# Altium integrated library Motorola Microcontroller 32-Bit.IntLib: 337 symbols (part 7 of 29)
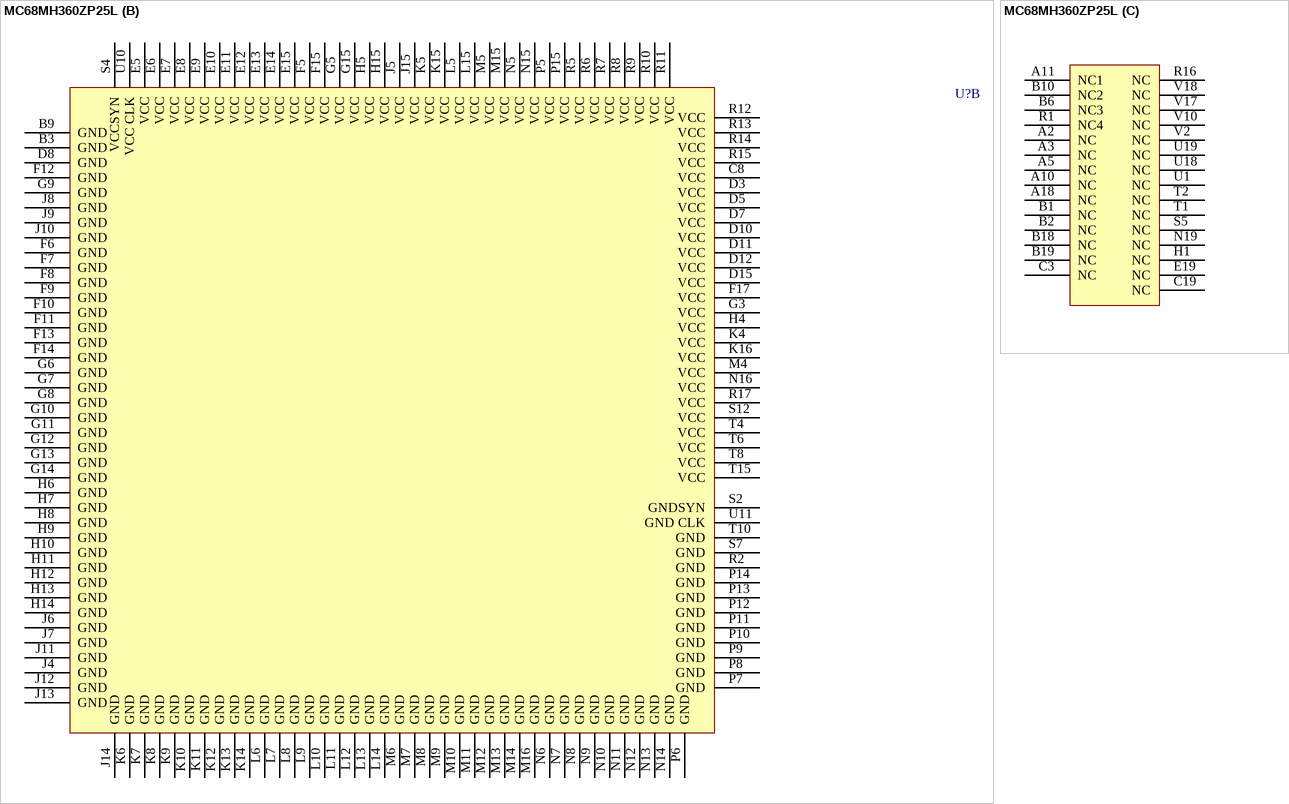
[diagram p246: symbol MC68MH360ZP25L]

## MC68MH360ZP25L
designator U?
Quad Integrated Communication Controller; Note: Footprint departs from the JEDEC JC-11 standard. The letter 's' is used to mark one of the rows.; Published: 21-Mar-2003; LatestRevisionDate: 13-Apr-2006; LatestRevisionNote: IPC-7351 Footprint Added.; DatasheetVersion: Jan-1995; PackageVersion: Sep-2002; PackageReference: 1103-01A; Publisher: Altium Limited; PackageDescription: 357-Ball Ball Grid Array 1.27 mm Pitch; ComponentLink1Description: Manufacturer Link; ComponentLink1URL: http://www.freescale.com/; ComponentLink2Description: Datasheet; ComponentLink2URL: http://www.freescale.com/files/32bit/doc/data_sheet/MC68360.pdf
footprint 1103-01 (BGA, 357-Leads, Body 25x25mm, Pitch 1.27mm)
3D model MC68MH360-1103-01 (357-Ball Ball Grid Array 1.27 mm Pitch)
part A pins: A4 ~{CAS}1/~{IACK}2 (out), A6 ~{DSACK}0/~{TB}I (io), A7 PRTY2/~{IOUT}0/~{RQOUT} (io), A8 PRTY0/~{IOUT}2 (io), A9 ~{IPIPE}1/~{RAS1DD}/~{BCLRI} (io), A12 ~{BR} (in), A13 ~{IRQ}4/~{IOUT}1 (io), A14 ~{RESETH} (io), A15 TDI (in), A16 ~{RMC}/CONFIG0/~{LOCK} (in), A17 ~{BERR}/~{TEA} (io), B4 ~{CAS}2/~{IACK}3 (out), B5 FREEZE/CONFIG2/~{MBARE} (out), B7 PRTY3/16~{BM} (io), B8 PRTY1/~{IOUT}1 (io), B11 ~{OE}/AMUX (out), B12 ~{BG} (io), B13 ~{IRQ}6/~{IOUT}2 (io), B14 ~{TRST} (in), B15 TDO (hiz), B16 ~{RESET}S (io), B17 ~{IRQ}1/~{IOUT}0/~{RQOUT} (io), C1 ~{CS}2/~{RAS}2 (io), C2 ~{CS}1/~{RAS}1 (io), C4 ~{CAS}3/~{IACK}6 (out), C5 ~{CAS}0/~{IACK}1 (out), C6 R/~{W} (out), C7 ~{DSACK}1/~{TA} (io), C9 ~{AS} (io), C10 ~{BCLRO}/CONFIG1/~{RAS2DD} (io), C11 ~{IFETCH}/BADD3/DSI (io), C12 ~{BGACK}/~{BB} (io), C13 ~{BKPT}/~{BKPTO}/DSCLK (io), C14 TMS (in), C15 ~{AVEC}/~{IACK}5/~{AVECO} (io), C16 ~{HALT} (io), C17 ~{IRQ}5 (in), C18 ~{IRQ}2 (in), D1 ~{CS}5/~{RAS}5 (io), D2 ~{CS}4/~{RAS}4 (io), D4 ~{CS}0/~{RAS}0 (io), D6 ~{DS}/TT1 (io), D9 ~{IPIPE}0/BADD2/DSO (out), D13 TCK (in), D14 ~{PERR} (out), D16 ~{IRQ}3 (in), D17 PC0/L1ST1/~{RTS}1 (io), D18 PC2/L1ST3/~{L1RQB}/~{RTS}3 (io), D19 PC3/L1ST4/~{L1RQA}/~{RTS}4 (io), E1 ~{TRIS}/~{TS} (in), E2 ~{CS}7/~{RAS}7/~{IACK}7 (io), E3 ~{CS}6/~{RAS}6 (io), E4 ~{CS}3/~{RAS}3 (io), E16 PC1/L1ST2/~{RTS}2 (io), E17 PC4/~{CTS}1 (io), E18 PC5/~{TGATE}1/~{CD}1 (io), F1 A3 (io), F2 A1 (io), F3 A0 (io), F4 ~{IRQ}7 (in), F16 PC6/~{CTS}2 (io), F18 PC7/~{TGATE}2/~{CD}2 (io), F19 PC8/~{SDACK}2/L1TSYNCB/~{CTS}3 (io), G1 A5 (io), G2 A4 (io), G4 A2 (io), G16 PC9/L1RSYNCB/~{CD}3 (io), G17 PC10/~{SDACK}1/L1TSYNCA/~{CTS}4 (io), G18 PC11/L1RSYNCA/~{CD}4 (io), G19 PB0/~{RRJCT}1/~{SPISEL} (io), H2 A7 (io), H3 A6 (io), H16 PB1/~{RSTRT}2/SPICLK (io), H17 PB2/~{RRJCT}2/SPIMOSI(SPITXD) (io), H18 PB3/BRGO4/SPIMISO(SPIRXD) (io), H19 PB4/~{DREQ}1/BRGO1 (io), J1 A8 (io), J2 A10 (io), J3 A9 (io), J16 PB6/~{DONE}1/SMTXD1 (io), J17 PB7/~{DONE}2/SMRXD1 (io), J18 PB5/~{DACK}1/BRGO2 (io), J19 PB8/~{DREQ}2/~{SMSYN}1 (io), K1 A11 (io), K2 A13 (io), K3 A12 (io), K17 PB10/L1CLKOB/SMTXD2 (io), K18 PB9/~{DACK}2/~{SMSYN}2 (io), K19 PB11/L1CLKOA/SMRXD2 (io), L1 A14 (io), L2 A17 (io), L3 A15 (io), L4 A16 (io), L16 PB14/L1ST3/~{L1RQB}/~{RTS}3 (io), L17 PB13/L1ST2/~{RTS}2 (io), L18 PB12/L1ST1/~{RTS}1 (io), L19 PB15/L1ST4/~{L1RQA}/~{RTS}4 (io), M1 A18 (io), M2 A19 (io), M3 A20 (io), M17 PA0/RXD1 (io), M18 PB17/STRBI/~{RSTRT}1 (io), M19 PB16/STRBO/BRGO3 (io), N1 A21 (io), N2 A22 (io), N3 A23 (io), N4 A25 (io), N17 PA2/RXD2 (io), N18 PA1/TXD1 (io), P1 A24 (io), P2 A26 (io), P3 A27 (io), P4 XTAL, P16 PA7/L1RXDA/TXD4 (io), P17 PA5/L1RXDB/TXD3 (io), P18 PA4/L1TXDB/RXD3 (io), P19 PA3/TXD2 (io), R3 MODCK1 (in), R4 EXTAL, R18 PA8/TIN1/L1RCLKA/BRGO1/CLK1 (io), R19 PA6/L1TXDA/RXD4 (io), S1 MODCK0 (in), S3 XFC, S6 FC2/TM2 (io), S8 D26 (io), S9 D22 (io), S10 CLKO1 (out), S11 D19 (io), S13 D11 (io), S14 D5 (io), S15 D0 (io), S16 PA15/L1TCLKB/~{TOUT}4/CLK8 (io), S17 PA11/~{TOUT}2/CLK4 (io), S18 PA10/TIN2/L1TCLKA/BRGO2/CLK3 (io), S19 PA9/BRGCLK1/~{TOUT}1/CLK2 (io), T3 A29/~{WE}2 (io), T5 FC0/TM0 (io), T7 D29 (io), T9 D21 (io), T11 CLKO2 (out), T12 D15 (io), T13 D12 (io), T14 D8 (io), T16 D2 (io), T17 PA14/TIN4/BRGO4/CLK7 (io), T18 PA13/BRGCLK2/L1RCLKB/~{TOUT}3/~{CLK}6 (io), T19 PA12/TIN3/BRGO3/CLK5 (io), U2 A28/~{WE}3 (io), U3 A30/~{WE}1 (io), U4 SIZ0 (io), U5 FC1/TM1 (io), U6 D31 (io), U7 D28 (io), U8 D25 (io), U9 D20 (io), U12 D16 (io), U13 D13 (io), U14 D9 (io), U15 D6 (io), U16 D3 (io), U17 D1 (io), V3 A31/~{WE}0 (io), V4 SIZ1 (io), V5 FC3/TT0 (io), V6 D30 (io), V7 D27 (io), V8 D24 (io), V9 D23 (io), V11 D18 (io), V12 D17 (io), V13 D14 (io), V14 D10 (io), V15 D7 (io), V16 D4 (io)
part B pins: B3 GND (power), B9 GND (power), C8 VCC (power), D3 VCC (power), D5 VCC (power), D7 VCC (power), D8 GND (power), D10 VCC (power), D11 VCC (power), D12 VCC (power), D15 VCC (power), E5 VCC (power), E6 VCC (power), E7 VCC (power), E8 VCC (power), E9 VCC (power), E10 VCC (power), E11 VCC (power), E12 VCC (power), E13 VCC (power), E14 VCC (power), E15 VCC (power), F5 VCC (power), F6 GND (power), F7 GND (power), F8 GND (power), F9 GND (power), F10 GND (power), F11 GND (power), F12 GND (power), F13 GND (power), F14 GND (power), F15 VCC (power), F17 VCC (power), G3 VCC (power), G5 VCC (power), G6 GND (power), G7 GND (power), G8 GND (power), G9 GND (power), G10 GND (power), G11 GND (power), G12 GND (power), G13 GND (power), G14 GND (power), G15 VCC (power), H4 VCC (power), H5 VCC (power), H6 GND (power), H7 GND (power), H8 GND (power), H9 GND (power), H10 GND (power), H11 GND (power), H12 GND (power), H13 GND (power), H14 GND (power), H15 VCC (power), J4 GND (power), J5 VCC (power), J6 GND (power), J7 GND (power), J8 GND (power), J9 GND (power), J10 GND (power), J11 GND (power), J12 GND (power), J13 GND (power), J14 GND (power), J15 VCC (power), K4 VCC (power), K5 VCC (power), K6 GND (power), K7 GND (power), K8 GND (power), K9 GND (power), K10 GND (power), K11 GND (power), K12 GND (power), K13 GND (power), K14 GND (power), K15 VCC (power), K16 VCC (power), L5 VCC (power), L6 GND (power), L7 GND (power), L8 GND (power), L9 GND (power), L10 GND (power), L11 GND (power), L12 GND (power), L13 GND (power), L14 GND (power), L15 VCC (power), M4 VCC (power), M5 VCC (power), M6 GND (power), M7 GND (power), M8 GND (power), M9 GND (power), M10 GND (power), M11 GND (power), M12 GND (power), M13 GND (power), M14 GND (power), M15 VCC (power), M16 GND (power), N5 VCC (power), N6 GND (power), N7 GND (power), N8 GND (power), N9 GND (power), N10 GND (power), N11 GND (power), N12 GND (power), N13 GND (power), N14 GND (power), N15 VCC (power), N16 VCC (power), P5 VCC (power), P6 GND (power), P7 GND (power), P8 GND (power), P9 GND (power), P10 GND (power), P11 GND (power), P12 GND (power), P13 GND (power), P14 GND (power), P15 VCC (power), R2 GND (power), R5 VCC (power), R6 VCC (power), R7 VCC (power), R8 VCC (power), R9 VCC (power), R10 VCC (power), R11 VCC (power), R12 VCC (power), R13 VCC (power), R14 VCC (power), R15 VCC (power), R17 VCC (power), S2 GNDSYN (power), S4 VCCSYN (power), S7 GND (power), S12 VCC (power), T4 VCC (power), T6 VCC (power), T8 VCC (power), T10 GND (power), T15 VCC (power), U10 VCC CLK (power), U11 GND CLK (power)
part C pins: A2 NC, A3 NC, A5 NC, A10 NC, A11 NC1, A18 NC, B1 NC, B2 NC, B6 NC3, B10 NC2, B18 NC, B19 NC, C3 NC, C19 NC, E19 NC, H1 NC, N19 NC, R1 NC4, R16 NC, S5 NC, T1 NC, T2 NC, U1 NC, U18 NC, U19 NC, V2 NC, V10 NC, V17 NC, V18 NC

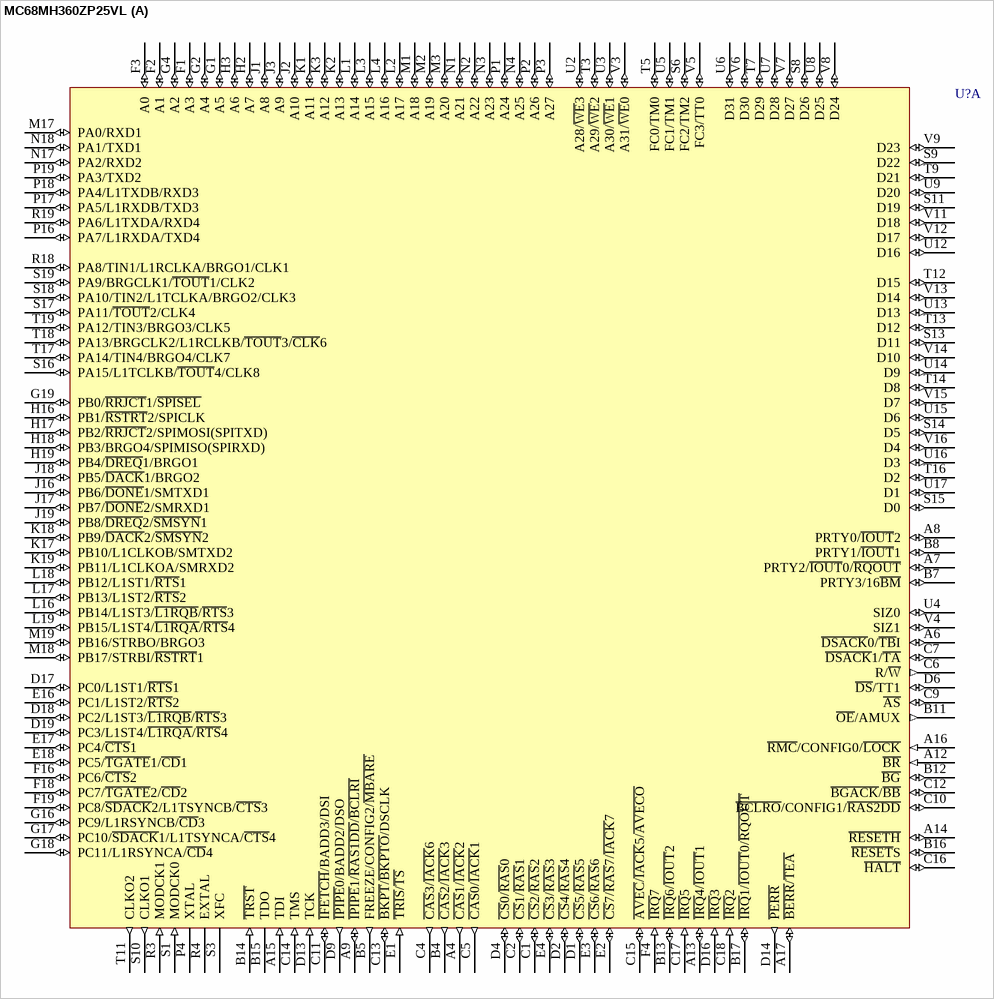
[diagram p62: symbol MC68MH360ZP25VL]

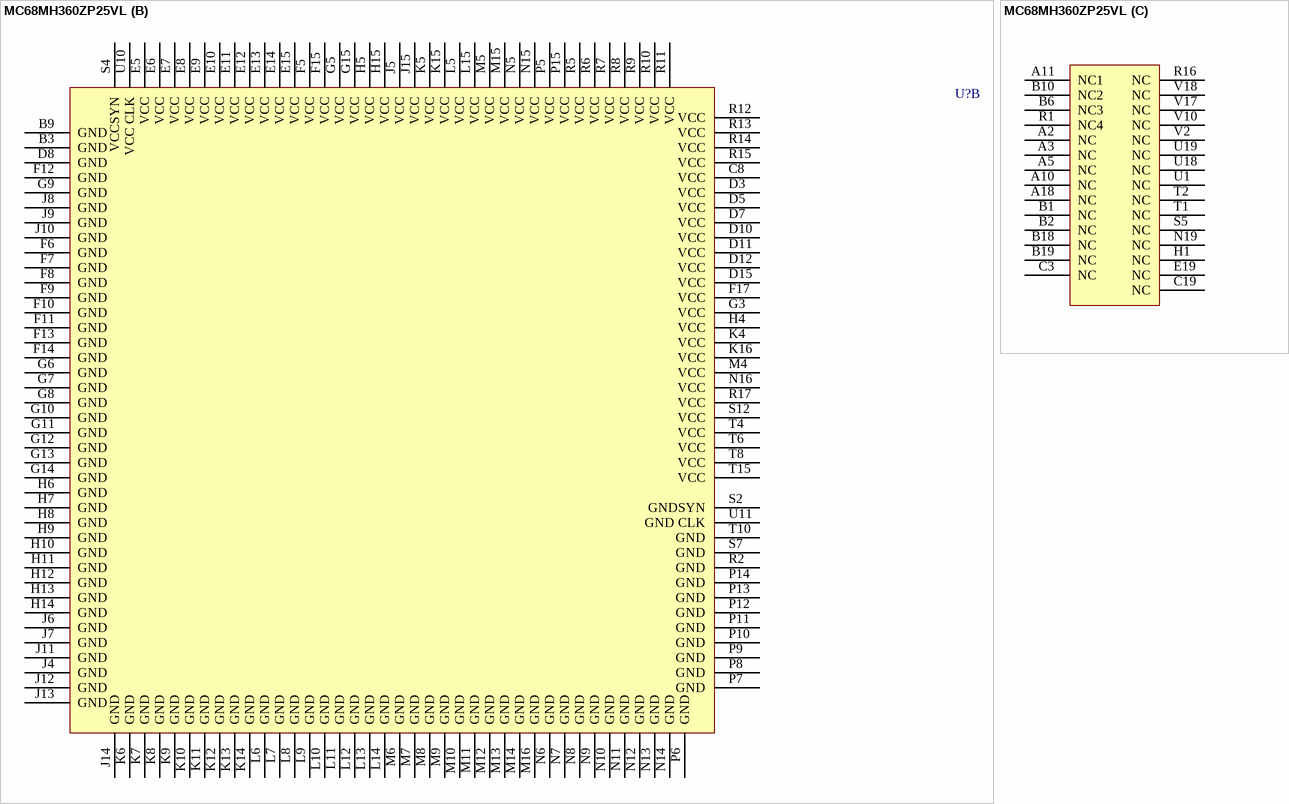
[diagram p63: symbol MC68MH360ZP25VL]

## MC68MH360ZP25VL
designator U?
Quad Integrated Communication Controller; Note: Footprint departs from the JEDEC JC-11 standard. The letter 's' is used to mark one of the rows.; Published: 21-Mar-2003; LatestRevisionDate: 13-Apr-2006; LatestRevisionNote: IPC-7351 Footprint Added.; DatasheetVersion: Jan-1995; PackageVersion: Sep-2002; PackageReference: 1103-01A; Publisher: Altium Limited; PackageDescription: 357-Ball Ball Grid Array 1.27 mm Pitch; ComponentLink1Description: Manufacturer Link; ComponentLink1URL: http://www.freescale.com/; ComponentLink2Description: Datasheet; ComponentLink2URL: http://www.freescale.com/files/32bit/doc/data_sheet/MC68360.pdf
footprint 1103-01 (BGA, 357-Leads, Body 25x25mm, Pitch 1.27mm)
3D model MC68MH360-1103-01 (357-Ball Ball Grid Array 1.27 mm Pitch)
part A pins: A4 ~{CAS}1/~{IACK}2 (out), A6 ~{DSACK}0/~{TB}I (io), A7 PRTY2/~{IOUT}0/~{RQOUT} (io), A8 PRTY0/~{IOUT}2 (io), A9 ~{IPIPE}1/~{RAS1DD}/~{BCLRI} (io), A12 ~{BR} (in), A13 ~{IRQ}4/~{IOUT}1 (io), A14 ~{RESETH} (io), A15 TDI (in), A16 ~{RMC}/CONFIG0/~{LOCK} (in), A17 ~{BERR}/~{TEA} (io), B4 ~{CAS}2/~{IACK}3 (out), B5 FREEZE/CONFIG2/~{MBARE} (out), B7 PRTY3/16~{BM} (io), B8 PRTY1/~{IOUT}1 (io), B11 ~{OE}/AMUX (out), B12 ~{BG} (io), B13 ~{IRQ}6/~{IOUT}2 (io), B14 ~{TRST} (in), B15 TDO (hiz), B16 ~{RESET}S (io), B17 ~{IRQ}1/~{IOUT}0/~{RQOUT} (io), C1 ~{CS}2/~{RAS}2 (io), C2 ~{CS}1/~{RAS}1 (io), C4 ~{CAS}3/~{IACK}6 (out), C5 ~{CAS}0/~{IACK}1 (out), C6 R/~{W} (out), C7 ~{DSACK}1/~{TA} (io), C9 ~{AS} (io), C10 ~{BCLRO}/CONFIG1/~{RAS2DD} (io), C11 ~{IFETCH}/BADD3/DSI (io), C12 ~{BGACK}/~{BB} (io), C13 ~{BKPT}/~{BKPTO}/DSCLK (io), C14 TMS (in), C15 ~{AVEC}/~{IACK}5/~{AVECO} (io), C16 ~{HALT} (io), C17 ~{IRQ}5 (in), C18 ~{IRQ}2 (in), D1 ~{CS}5/~{RAS}5 (io), D2 ~{CS}4/~{RAS}4 (io), D4 ~{CS}0/~{RAS}0 (io), D6 ~{DS}/TT1 (io), D9 ~{IPIPE}0/BADD2/DSO (out), D13 TCK (in), D14 ~{PERR} (out), D16 ~{IRQ}3 (in), D17 PC0/L1ST1/~{RTS}1 (io), D18 PC2/L1ST3/~{L1RQB}/~{RTS}3 (io), D19 PC3/L1ST4/~{L1RQA}/~{RTS}4 (io), E1 ~{TRIS}/~{TS} (in), E2 ~{CS}7/~{RAS}7/~{IACK}7 (io), E3 ~{CS}6/~{RAS}6 (io), E4 ~{CS}3/~{RAS}3 (io), E16 PC1/L1ST2/~{RTS}2 (io), E17 PC4/~{CTS}1 (io), E18 PC5/~{TGATE}1/~{CD}1 (io), F1 A3 (io), F2 A1 (io), F3 A0 (io), F4 ~{IRQ}7 (in), F16 PC6/~{CTS}2 (io), F18 PC7/~{TGATE}2/~{CD}2 (io), F19 PC8/~{SDACK}2/L1TSYNCB/~{CTS}3 (io), G1 A5 (io), G2 A4 (io), G4 A2 (io), G16 PC9/L1RSYNCB/~{CD}3 (io), G17 PC10/~{SDACK}1/L1TSYNCA/~{CTS}4 (io), G18 PC11/L1RSYNCA/~{CD}4 (io), G19 PB0/~{RRJCT}1/~{SPISEL} (io), H2 A7 (io), H3 A6 (io), H16 PB1/~{RSTRT}2/SPICLK (io), H17 PB2/~{RRJCT}2/SPIMOSI(SPITXD) (io), H18 PB3/BRGO4/SPIMISO(SPIRXD) (io), H19 PB4/~{DREQ}1/BRGO1 (io), J1 A8 (io), J2 A10 (io), J3 A9 (io), J16 PB6/~{DONE}1/SMTXD1 (io), J17 PB7/~{DONE}2/SMRXD1 (io), J18 PB5/~{DACK}1/BRGO2 (io), J19 PB8/~{DREQ}2/~{SMSYN}1 (io), K1 A11 (io), K2 A13 (io), K3 A12 (io), K17 PB10/L1CLKOB/SMTXD2 (io), K18 PB9/~{DACK}2/~{SMSYN}2 (io), K19 PB11/L1CLKOA/SMRXD2 (io), L1 A14 (io), L2 A17 (io), L3 A15 (io), L4 A16 (io), L16 PB14/L1ST3/~{L1RQB}/~{RTS}3 (io), L17 PB13/L1ST2/~{RTS}2 (io), L18 PB12/L1ST1/~{RTS}1 (io), L19 PB15/L1ST4/~{L1RQA}/~{RTS}4 (io), M1 A18 (io), M2 A19 (io), M3 A20 (io), M17 PA0/RXD1 (io), M18 PB17/STRBI/~{RSTRT}1 (io), M19 PB16/STRBO/BRGO3 (io), N1 A21 (io), N2 A22 (io), N3 A23 (io), N4 A25 (io), N17 PA2/RXD2 (io), N18 PA1/TXD1 (io), P1 A24 (io), P2 A26 (io), P3 A27 (io), P4 XTAL, P16 PA7/L1RXDA/TXD4 (io), P17 PA5/L1RXDB/TXD3 (io), P18 PA4/L1TXDB/RXD3 (io), P19 PA3/TXD2 (io), R3 MODCK1 (in), R4 EXTAL, R18 PA8/TIN1/L1RCLKA/BRGO1/CLK1 (io), R19 PA6/L1TXDA/RXD4 (io), S1 MODCK0 (in), S3 XFC, S6 FC2/TM2 (io), S8 D26 (io), S9 D22 (io), S10 CLKO1 (out), S11 D19 (io), S13 D11 (io), S14 D5 (io), S15 D0 (io), S16 PA15/L1TCLKB/~{TOUT}4/CLK8 (io), S17 PA11/~{TOUT}2/CLK4 (io), S18 PA10/TIN2/L1TCLKA/BRGO2/CLK3 (io), S19 PA9/BRGCLK1/~{TOUT}1/CLK2 (io), T3 A29/~{WE}2 (io), T5 FC0/TM0 (io), T7 D29 (io), T9 D21 (io), T11 CLKO2 (out), T12 D15 (io), T13 D12 (io), T14 D8 (io), T16 D2 (io), T17 PA14/TIN4/BRGO4/CLK7 (io), T18 PA13/BRGCLK2/L1RCLKB/~{TOUT}3/~{CLK}6 (io), T19 PA12/TIN3/BRGO3/CLK5 (io), U2 A28/~{WE}3 (io), U3 A30/~{WE}1 (io), U4 SIZ0 (io), U5 FC1/TM1 (io), U6 D31 (io), U7 D28 (io), U8 D25 (io), U9 D20 (io), U12 D16 (io), U13 D13 (io), U14 D9 (io), U15 D6 (io), U16 D3 (io), U17 D1 (io), V3 A31/~{WE}0 (io), V4 SIZ1 (io), V5 FC3/TT0 (io), V6 D30 (io), V7 D27 (io), V8 D24 (io), V9 D23 (io), V11 D18 (io), V12 D17 (io), V13 D14 (io), V14 D10 (io), V15 D7 (io), V16 D4 (io)
part B pins: B3 GND (power), B9 GND (power), C8 VCC (power), D3 VCC (power), D5 VCC (power), D7 VCC (power), D8 GND (power), D10 VCC (power), D11 VCC (power), D12 VCC (power), D15 VCC (power), E5 VCC (power), E6 VCC (power), E7 VCC (power), E8 VCC (power), E9 VCC (power), E10 VCC (power), E11 VCC (power), E12 VCC (power), E13 VCC (power), E14 VCC (power), E15 VCC (power), F5 VCC (power), F6 GND (power), F7 GND (power), F8 GND (power), F9 GND (power), F10 GND (power), F11 GND (power), F12 GND (power), F13 GND (power), F14 GND (power), F15 VCC (power), F17 VCC (power), G3 VCC (power), G5 VCC (power), G6 GND (power), G7 GND (power), G8 GND (power), G9 GND (power), G10 GND (power), G11 GND (power), G12 GND (power), G13 GND (power), G14 GND (power), G15 VCC (power), H4 VCC (power), H5 VCC (power), H6 GND (power), H7 GND (power), H8 GND (power), H9 GND (power), H10 GND (power), H11 GND (power), H12 GND (power), H13 GND (power), H14 GND (power), H15 VCC (power), J4 GND (power), J5 VCC (power), J6 GND (power), J7 GND (power), J8 GND (power), J9 GND (power), J10 GND (power), J11 GND (power), J12 GND (power), J13 GND (power), J14 GND (power), J15 VCC (power), K4 VCC (power), K5 VCC (power), K6 GND (power), K7 GND (power), K8 GND (power), K9 GND (power), K10 GND (power), K11 GND (power), K12 GND (power), K13 GND (power), K14 GND (power), K15 VCC (power), K16 VCC (power), L5 VCC (power), L6 GND (power), L7 GND (power), L8 GND (power), L9 GND (power), L10 GND (power), L11 GND (power), L12 GND (power), L13 GND (power), L14 GND (power), L15 VCC (power), M4 VCC (power), M5 VCC (power), M6 GND (power), M7 GND (power), M8 GND (power), M9 GND (power), M10 GND (power), M11 GND (power), M12 GND (power), M13 GND (power), M14 GND (power), M15 VCC (power), M16 GND (power), N5 VCC (power), N6 GND (power), N7 GND (power), N8 GND (power), N9 GND (power), N10 GND (power), N11 GND (power), N12 GND (power), N13 GND (power), N14 GND (power), N15 VCC (power), N16 VCC (power), P5 VCC (power), P6 GND (power), P7 GND (power), P8 GND (power), P9 GND (power), P10 GND (power), P11 GND (power), P12 GND (power), P13 GND (power), P14 GND (power), P15 VCC (power), R2 GND (power), R5 VCC (power), R6 VCC (power), R7 VCC (power), R8 VCC (power), R9 VCC (power), R10 VCC (power), R11 VCC (power), R12 VCC (power), R13 VCC (power), R14 VCC (power), R15 VCC (power), R17 VCC (power), S2 GNDSYN (power), S4 VCCSYN (power), S7 GND (power), S12 VCC (power), T4 VCC (power), T6 VCC (power), T8 VCC (power), T10 GND (power), T15 VCC (power), U10 VCC CLK (power), U11 GND CLK (power)
part C pins: A2 NC, A3 NC, A5 NC, A10 NC, A11 NC1, A18 NC, B1 NC, B2 NC, B6 NC3, B10 NC2, B18 NC, B19 NC, C3 NC, C19 NC, E19 NC, H1 NC, N19 NC, R1 NC4, R16 NC, S5 NC, T1 NC, T2 NC, U1 NC, U18 NC, U19 NC, V2 NC, V10 NC, V17 NC, V18 NC

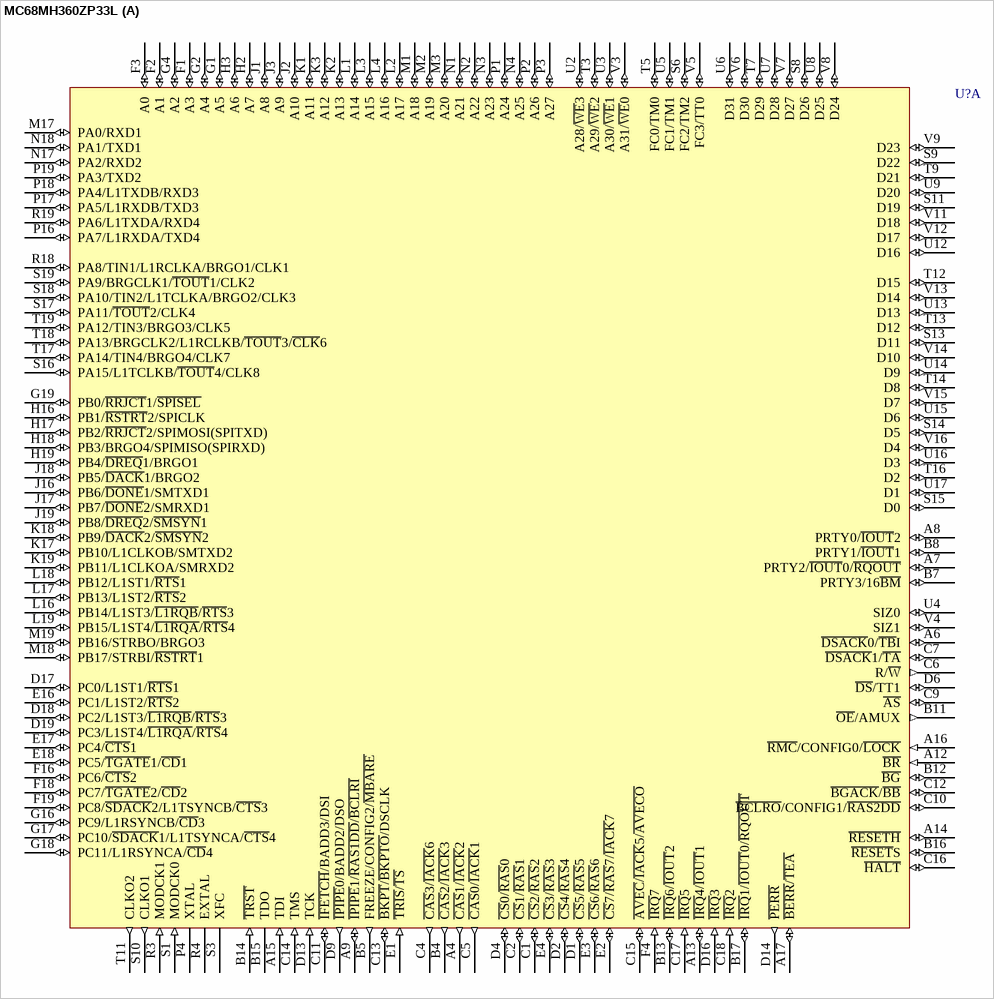
[diagram p64: symbol MC68MH360ZP33L]

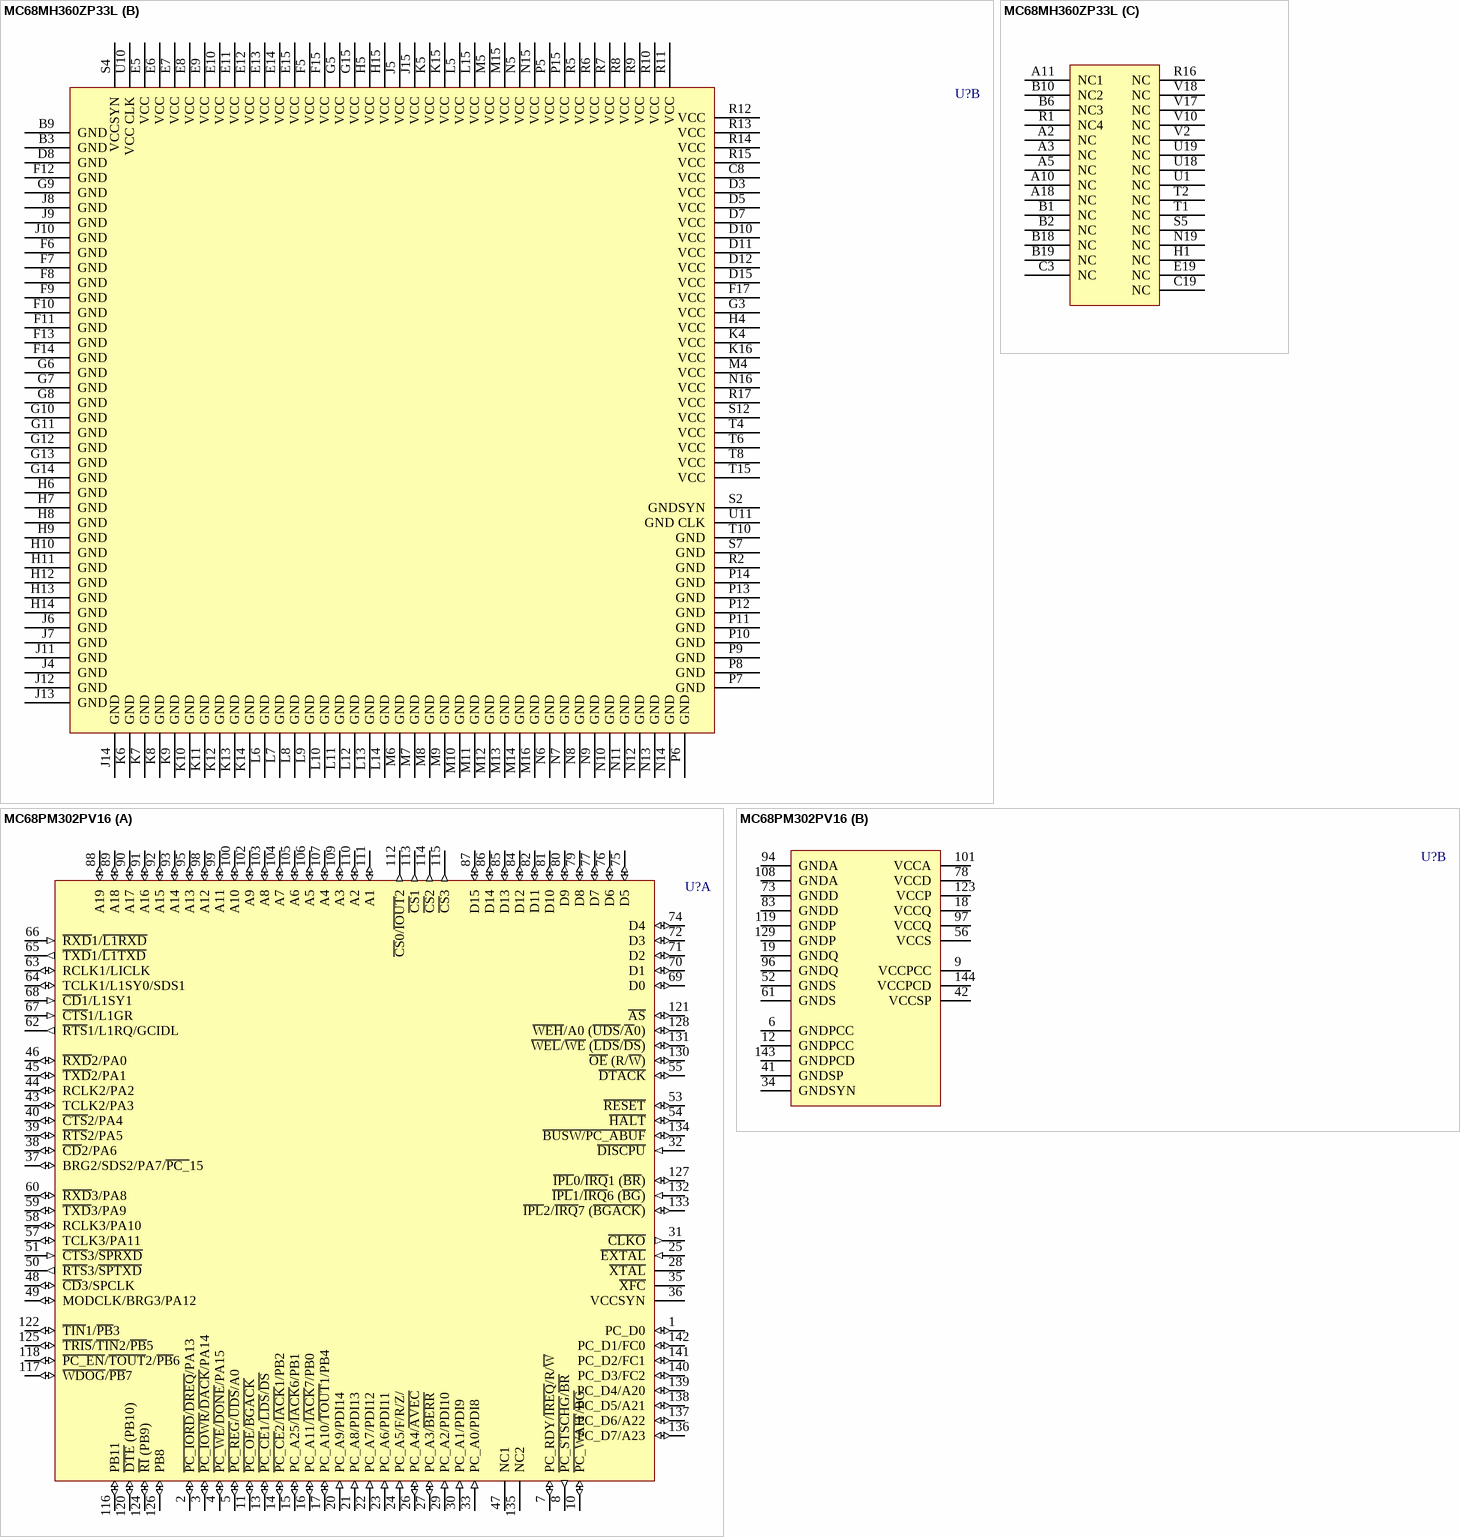
[diagram p65: symbols MC68MH360ZP33L to MC68PM302PV16]

## MC68MH360ZP33L
designator U?
Quad Integrated Communication Controller; Note: Footprint departs from the JEDEC JC-11 standard. The letter 's' is used to mark one of the rows.; Published: 21-Mar-2003; LatestRevisionDate: 13-Apr-2006; LatestRevisionNote: IPC-7351 Footprint Added.; DatasheetVersion: Jan-1995; PackageVersion: Sep-2002; PackageReference: 1103-01A; Publisher: Altium Limited; PackageDescription: 357-Ball Ball Grid Array 1.27 mm Pitch; ComponentLink1Description: Manufacturer Link; ComponentLink1URL: http://www.freescale.com/; ComponentLink2Description: Datasheet; ComponentLink2URL: http://www.freescale.com/files/32bit/doc/data_sheet/MC68360.pdf
footprint 1103-01 (BGA, 357-Leads, Body 25x25mm, Pitch 1.27mm)
3D model MC68MH360-1103-01 (357-Ball Ball Grid Array 1.27 mm Pitch)
part A pins: A4 ~{CAS}1/~{IACK}2 (out), A6 ~{DSACK}0/~{TB}I (io), A7 PRTY2/~{IOUT}0/~{RQOUT} (io), A8 PRTY0/~{IOUT}2 (io), A9 ~{IPIPE}1/~{RAS1DD}/~{BCLRI} (io), A12 ~{BR} (in), A13 ~{IRQ}4/~{IOUT}1 (io), A14 ~{RESETH} (io), A15 TDI (in), A16 ~{RMC}/CONFIG0/~{LOCK} (in), A17 ~{BERR}/~{TEA} (io), B4 ~{CAS}2/~{IACK}3 (out), B5 FREEZE/CONFIG2/~{MBARE} (out), B7 PRTY3/16~{BM} (io), B8 PRTY1/~{IOUT}1 (io), B11 ~{OE}/AMUX (out), B12 ~{BG} (io), B13 ~{IRQ}6/~{IOUT}2 (io), B14 ~{TRST} (in), B15 TDO (hiz), B16 ~{RESET}S (io), B17 ~{IRQ}1/~{IOUT}0/~{RQOUT} (io), C1 ~{CS}2/~{RAS}2 (io), C2 ~{CS}1/~{RAS}1 (io), C4 ~{CAS}3/~{IACK}6 (out), C5 ~{CAS}0/~{IACK}1 (out), C6 R/~{W} (out), C7 ~{DSACK}1/~{TA} (io), C9 ~{AS} (io), C10 ~{BCLRO}/CONFIG1/~{RAS2DD} (io), C11 ~{IFETCH}/BADD3/DSI (io), C12 ~{BGACK}/~{BB} (io), C13 ~{BKPT}/~{BKPTO}/DSCLK (io), C14 TMS (in), C15 ~{AVEC}/~{IACK}5/~{AVECO} (io), C16 ~{HALT} (io), C17 ~{IRQ}5 (in), C18 ~{IRQ}2 (in), D1 ~{CS}5/~{RAS}5 (io), D2 ~{CS}4/~{RAS}4 (io), D4 ~{CS}0/~{RAS}0 (io), D6 ~{DS}/TT1 (io), D9 ~{IPIPE}0/BADD2/DSO (out), D13 TCK (in), D14 ~{PERR} (out), D16 ~{IRQ}3 (in), D17 PC0/L1ST1/~{RTS}1 (io), D18 PC2/L1ST3/~{L1RQB}/~{RTS}3 (io), D19 PC3/L1ST4/~{L1RQA}/~{RTS}4 (io), E1 ~{TRIS}/~{TS} (in), E2 ~{CS}7/~{RAS}7/~{IACK}7 (io), E3 ~{CS}6/~{RAS}6 (io), E4 ~{CS}3/~{RAS}3 (io), E16 PC1/L1ST2/~{RTS}2 (io), E17 PC4/~{CTS}1 (io), E18 PC5/~{TGATE}1/~{CD}1 (io), F1 A3 (io), F2 A1 (io), F3 A0 (io), F4 ~{IRQ}7 (in), F16 PC6/~{CTS}2 (io), F18 PC7/~{TGATE}2/~{CD}2 (io), F19 PC8/~{SDACK}2/L1TSYNCB/~{CTS}3 (io), G1 A5 (io), G2 A4 (io), G4 A2 (io), G16 PC9/L1RSYNCB/~{CD}3 (io), G17 PC10/~{SDACK}1/L1TSYNCA/~{CTS}4 (io), G18 PC11/L1RSYNCA/~{CD}4 (io), G19 PB0/~{RRJCT}1/~{SPISEL} (io), H2 A7 (io), H3 A6 (io), H16 PB1/~{RSTRT}2/SPICLK (io), H17 PB2/~{RRJCT}2/SPIMOSI(SPITXD) (io), H18 PB3/BRGO4/SPIMISO(SPIRXD) (io), H19 PB4/~{DREQ}1/BRGO1 (io), J1 A8 (io), J2 A10 (io), J3 A9 (io), J16 PB6/~{DONE}1/SMTXD1 (io), J17 PB7/~{DONE}2/SMRXD1 (io), J18 PB5/~{DACK}1/BRGO2 (io), J19 PB8/~{DREQ}2/~{SMSYN}1 (io), K1 A11 (io), K2 A13 (io), K3 A12 (io), K17 PB10/L1CLKOB/SMTXD2 (io), K18 PB9/~{DACK}2/~{SMSYN}2 (io), K19 PB11/L1CLKOA/SMRXD2 (io), L1 A14 (io), L2 A17 (io), L3 A15 (io), L4 A16 (io), L16 PB14/L1ST3/~{L1RQB}/~{RTS}3 (io), L17 PB13/L1ST2/~{RTS}2 (io), L18 PB12/L1ST1/~{RTS}1 (io), L19 PB15/L1ST4/~{L1RQA}/~{RTS}4 (io), M1 A18 (io), M2 A19 (io), M3 A20 (io), M17 PA0/RXD1 (io), M18 PB17/STRBI/~{RSTRT}1 (io), M19 PB16/STRBO/BRGO3 (io), N1 A21 (io), N2 A22 (io), N3 A23 (io), N4 A25 (io), N17 PA2/RXD2 (io), N18 PA1/TXD1 (io), P1 A24 (io), P2 A26 (io), P3 A27 (io), P4 XTAL, P16 PA7/L1RXDA/TXD4 (io), P17 PA5/L1RXDB/TXD3 (io), P18 PA4/L1TXDB/RXD3 (io), P19 PA3/TXD2 (io), R3 MODCK1 (in), R4 EXTAL, R18 PA8/TIN1/L1RCLKA/BRGO1/CLK1 (io), R19 PA6/L1TXDA/RXD4 (io), S1 MODCK0 (in), S3 XFC, S6 FC2/TM2 (io), S8 D26 (io), S9 D22 (io), S10 CLKO1 (out), S11 D19 (io), S13 D11 (io), S14 D5 (io), S15 D0 (io), S16 PA15/L1TCLKB/~{TOUT}4/CLK8 (io), S17 PA11/~{TOUT}2/CLK4 (io), S18 PA10/TIN2/L1TCLKA/BRGO2/CLK3 (io), S19 PA9/BRGCLK1/~{TOUT}1/CLK2 (io), T3 A29/~{WE}2 (io), T5 FC0/TM0 (io), T7 D29 (io), T9 D21 (io), T11 CLKO2 (out), T12 D15 (io), T13 D12 (io), T14 D8 (io), T16 D2 (io), T17 PA14/TIN4/BRGO4/CLK7 (io), T18 PA13/BRGCLK2/L1RCLKB/~{TOUT}3/~{CLK}6 (io), T19 PA12/TIN3/BRGO3/CLK5 (io), U2 A28/~{WE}3 (io), U3 A30/~{WE}1 (io), U4 SIZ0 (io), U5 FC1/TM1 (io), U6 D31 (io), U7 D28 (io), U8 D25 (io), U9 D20 (io), U12 D16 (io), U13 D13 (io), U14 D9 (io), U15 D6 (io), U16 D3 (io), U17 D1 (io), V3 A31/~{WE}0 (io), V4 SIZ1 (io), V5 FC3/TT0 (io), V6 D30 (io), V7 D27 (io), V8 D24 (io), V9 D23 (io), V11 D18 (io), V12 D17 (io), V13 D14 (io), V14 D10 (io), V15 D7 (io), V16 D4 (io)
part B pins: B3 GND (power), B9 GND (power), C8 VCC (power), D3 VCC (power), D5 VCC (power), D7 VCC (power), D8 GND (power), D10 VCC (power), D11 VCC (power), D12 VCC (power), D15 VCC (power), E5 VCC (power), E6 VCC (power), E7 VCC (power), E8 VCC (power), E9 VCC (power), E10 VCC (power), E11 VCC (power), E12 VCC (power), E13 VCC (power), E14 VCC (power), E15 VCC (power), F5 VCC (power), F6 GND (power), F7 GND (power), F8 GND (power), F9 GND (power), F10 GND (power), F11 GND (power), F12 GND (power), F13 GND (power), F14 GND (power), F15 VCC (power), F17 VCC (power), G3 VCC (power), G5 VCC (power), G6 GND (power), G7 GND (power), G8 GND (power), G9 GND (power), G10 GND (power), G11 GND (power), G12 GND (power), G13 GND (power), G14 GND (power), G15 VCC (power), H4 VCC (power), H5 VCC (power), H6 GND (power), H7 GND (power), H8 GND (power), H9 GND (power), H10 GND (power), H11 GND (power), H12 GND (power), H13 GND (power), H14 GND (power), H15 VCC (power), J4 GND (power), J5 VCC (power), J6 GND (power), J7 GND (power), J8 GND (power), J9 GND (power), J10 GND (power), J11 GND (power), J12 GND (power), J13 GND (power), J14 GND (power), J15 VCC (power), K4 VCC (power), K5 VCC (power), K6 GND (power), K7 GND (power), K8 GND (power), K9 GND (power), K10 GND (power), K11 GND (power), K12 GND (power), K13 GND (power), K14 GND (power), K15 VCC (power), K16 VCC (power), L5 VCC (power), L6 GND (power), L7 GND (power), L8 GND (power), L9 GND (power), L10 GND (power), L11 GND (power), L12 GND (power), L13 GND (power), L14 GND (power), L15 VCC (power), M4 VCC (power), M5 VCC (power), M6 GND (power), M7 GND (power), M8 GND (power), M9 GND (power), M10 GND (power), M11 GND (power), M12 GND (power), M13 GND (power), M14 GND (power), M15 VCC (power), M16 GND (power), N5 VCC (power), N6 GND (power), N7 GND (power), N8 GND (power), N9 GND (power), N10 GND (power), N11 GND (power), N12 GND (power), N13 GND (power), N14 GND (power), N15 VCC (power), N16 VCC (power), P5 VCC (power), P6 GND (power), P7 GND (power), P8 GND (power), P9 GND (power), P10 GND (power), P11 GND (power), P12 GND (power), P13 GND (power), P14 GND (power), P15 VCC (power), R2 GND (power), R5 VCC (power), R6 VCC (power), R7 VCC (power), R8 VCC (power), R9 VCC (power), R10 VCC (power), R11 VCC (power), R12 VCC (power), R13 VCC (power), R14 VCC (power), R15 VCC (power), R17 VCC (power), S2 GNDSYN (power), S4 VCCSYN (power), S7 GND (power), S12 VCC (power), T4 VCC (power), T6 VCC (power), T8 VCC (power), T10 GND (power), T15 VCC (power), U10 VCC CLK (power), U11 GND CLK (power)
part C pins: A2 NC, A3 NC, A5 NC, A10 NC, A11 NC1, A18 NC, B1 NC, B2 NC, B6 NC3, B10 NC2, B18 NC, B19 NC, C3 NC, C19 NC, E19 NC, H1 NC, N19 NC, R1 NC4, R16 NC, S5 NC, T1 NC, T2 NC, U1 NC, U18 NC, U19 NC, V2 NC, V10 NC, V17 NC, V18 NC

## MC68PM302PV16
designator U?
Integrated Multiprotocol Processor with PCMCIA; Published: 21-Mar-2003; LatestRevisionDate: 13-Apr-2006; LatestRevisionNote: IPC-7351 Footprint Added.; DatasheetVersion: Jan-1995; PackageVersion: 1995; PackageReference: 918-02; Publisher: Altium Limited; PackageDescription: 144-Pin Thin Quad Flat Pack 0.5 mm Pitch; ComponentLink1Description: Manufacturer Link; ComponentLink1URL: http://www.freescale.com/
footprint 918-02_N (Thin QFP, 144-Leads, Body 20x20mm, Pitch 0.5mm, IPC Medium Density)
footprint 918-02_L (Thin QFP, 144-Leads, Body 20x20mm, Pitch 0.5mm, IPC High Density)
footprint 918-02_M (Thin QFP, 144-Leads, Body 20x20mm, Pitch 0.5mm, IPC Low Density)
3D model MC68PM302-918 (144-Pin Thin Quad Flat Pack 0.5 mm Pitch)
part A pins: 1 PC_D0 (io), 2 ~{PC_IORD}/~{DREQ}/PA13 (io), 3 ~{PC_IOWR}/~{DACK}/PA14 (io), 4 ~{PC_WE}/~{DONE}/PA15 (io), 5 ~{PC_REG}/~{UDS}/A0 (io), 7 PC_RDY/~{IREQ}/R/~{W} (io), 8 ~{PC_STSCHG}/~{BR} (out), 10 ~{PC_WAIT}/~{BG} (io), 11 ~{PC_OE}/~{BGACK} (io), 13 ~{PC_CE}1/~{LDS}/~{DS} (io), 14 ~{PC_CE}2/~{IACK}1/PB2 (io), 15 PC_A25/~{IACK}6/PB1 (io), 16 PC_A11/~{IACK}7/PB0 (io), 17 PC_A10/~{TOUT}1/PB4 (io), 20 PC_A9/PDI14 (in), 21 PC_A8/PDI13 (in), 22 PC_A7/PDI12 (in), 23 PC_A6/PDI11 (in), 24 PC_A5/F/R/Z/ (in), 25 ~{EXTAL} (in), 26 PC_A4/~{AVEC} (io), 27 PC_A3/~{BERR} (io), 28 ~{XTAL}, 29 PC_A2/PDI10 (in), 30 PC_A1/PDI9 (in), 31 ~{CLKO} (out), 32 ~{DISCPU} (in), 33 PC_A0/PDI8 (in), 35 ~{XFC}, 36 VCCSYN (power), 37 BRG2/SDS2/PA7/~{PC_}15 (io), 38 ~{CD}2/PA6 (io), 39 ~{RTS}2/PA5 (io), 40 ~{CTS}2/PA4 (io), 43 TCLK2/PA3 (io), 44 RCLK2/PA2 (io), 45 ~{TXD}2/PA1 (io), 46 ~{RXD}2/PA0 (io), 47 NC1, 48 ~{CD}3/SPCLK (io), 49 MODCLK/BRG3/PA12 (io), 50 ~{RTS}3/~{SPTXD} (out), 51 ~{CTS}3/~{SPRXD} (in), 53 ~{RESET} (io), 54 ~{HALT} (io), 55 ~{DTACK} (io), 57 TCLK3/PA11 (io), 58 RCLK3/PA10 (io), 59 ~{TXD}3/PA9 (io), 60 ~{RXD}3/PA8 (io), 62 ~{RTS}1/L1RQ/GCIDL (out), 63 RCLK1/LICLK (io), 64 TCLK1/L1SY0/SDS1 (io), 65 ~{TXD}1/~{L1TXD} (out), 66 ~{RXD}1/~{L1RXD} (in), 67 ~{CTS}1/L1GR (in), 68 ~{CD}1/L1SY1 (in), 69 D0 (io), 70 D1 (io), 71 D2 (io), 72 D3 (io), 74 D4 (io), 75 D5 (io), 76 D6 (io), 77 D7 (io), 79 D8 (io), 80 D9 (io), 81 D10 (io), 82 D11 (io), 84 D12 (io), 85 D13 (io), 86 D14 (io), 87 D15 (io), 88 A19 (io), 89 A18 (io), 90 A17 (io), 91 A16 (io), 92 A15 (io), 93 A14 (io), 95 A13 (io), 98 A12 (io), 99 A11 (io), 100 A10 (io), 102 A9 (io), 103 A8 (io), 104 A7 (io), 105 A6 (io), 106 A5 (io), 107 A4 (io), 109 A3 (io), 110 A2 (io), 111 A1 (io), 112 ~{CS}0/~{IOUT}2 (out), 113 ~{CS}1 (out), 114 ~{CS}2 (out), 115 ~{CS}3 (out), 116 PB11 (io), 117 ~{WDOG}/~{PB}7 (io), 118 ~{PC_EN}/~{TOUT}2/~{PB}6 (io), 120 ~{DTE} (PB10) (io), 121 ~{AS} (io), 122 ~{TIN}1/~{PB}3 (io), 124 ~{RI} (PB9) (io), 125 ~{TRIS}/~{TIN}2/~{PB}5 (io), 126 PB8 (io), 127 ~{IPL}0/~{IRQ}1 (~{BR}) (io), 128 ~{WEH}/A0 (~{UDS}/~{A}0) (io), 130 ~{OE} (R/~{W}) (io), 131 ~{WEL}/~{WE} (~{LDS}/~{DS}) (io), 132 ~{IPL}1/~{IRQ}6 (~{BG}) (in), 133 ~{IPL}2/~{IRQ}7 (~{BGACK}) (io), 134 ~{BUSW/PC_ABUF} (io), 135 NC2, 136 PC_D7/A23 (io), 137 PC_D6/A22 (io), 138 PC_D5/A21 (io), 139 PC_D4/A20 (io), 140 PC_D3/FC2 (io), 141 PC_D2/FC1 (io), 142 PC_D1/FC0 (io)
part B pins: 6 GNDPCC (power), 9 VCCPCC (power), 12 GNDPCC (power), 18 VCCQ (power), 19 GNDQ (power), 34 GNDSYN (power), 41 GNDSP (power), 42 VCCSP (power), 52 GNDS (power), 56 VCCS (power), 61 GNDS (power), 73 GNDD (power), 78 VCCD (power), 83 GNDD (power), 94 GNDA (power), 96 GNDQ (power), 97 VCCQ (power), 101 VCCA (power), 108 GNDA (power), 119 GNDP (power), 123 VCCP (power), 129 GNDP (power), 143 GNDPCD (power), 144 VCCPCD (power)

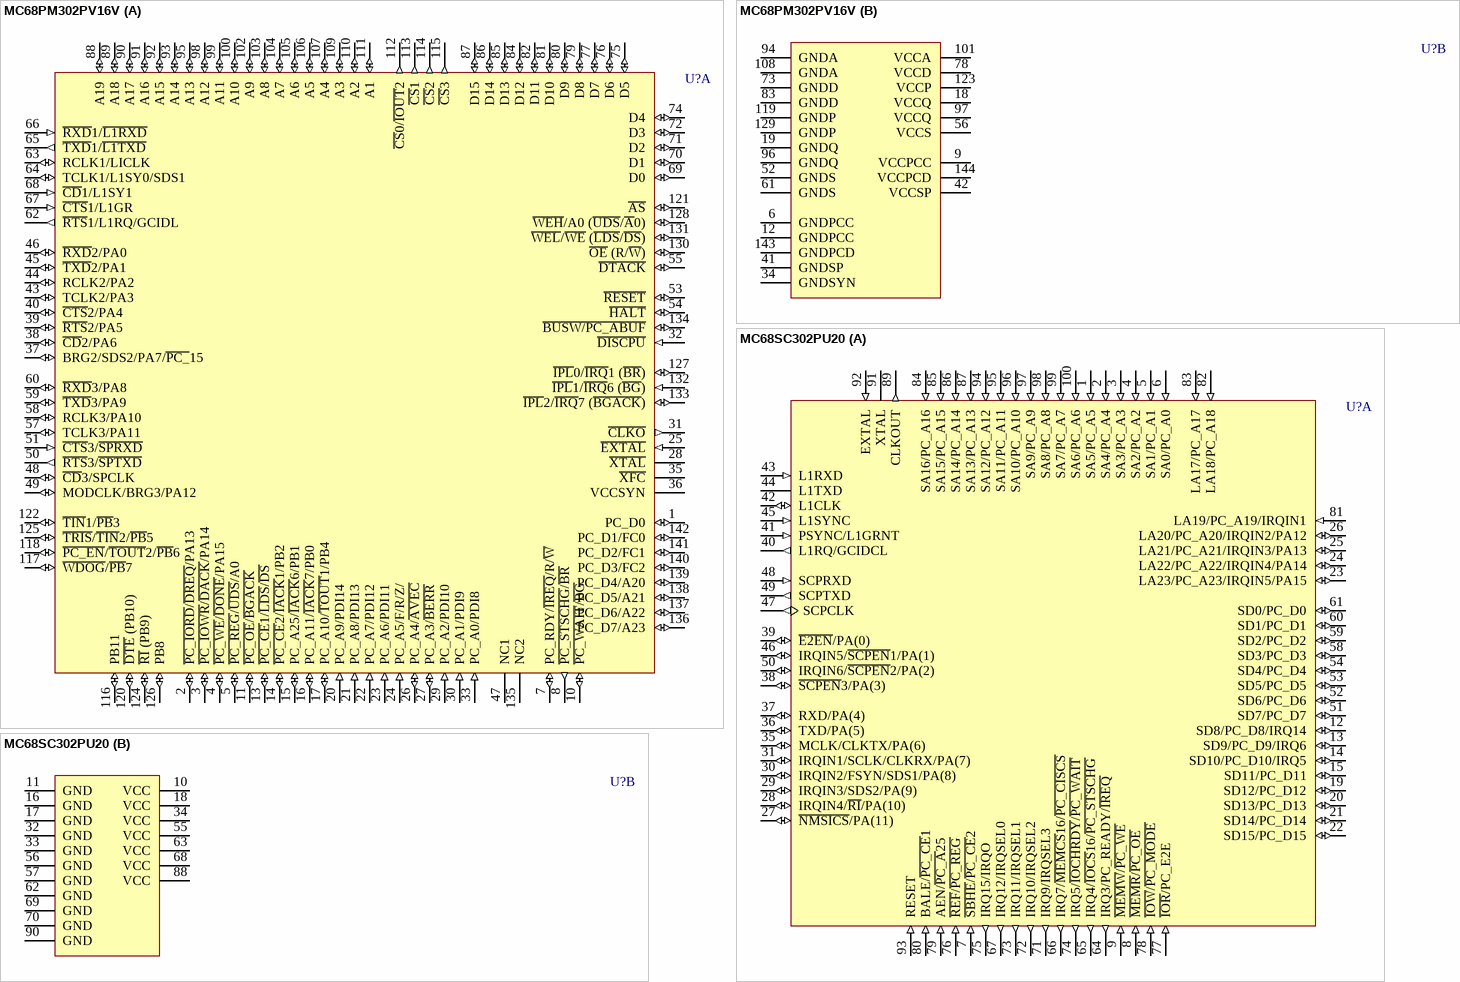
[diagram p66: symbols MC68PM302PV16V to MC68SC302PU20]

## MC68PM302PV16V
designator U?
Integrated Multiprotocol Processor with PCMCIA; Published: 21-Mar-2003; LatestRevisionDate: 13-Apr-2006; LatestRevisionNote: IPC-7351 Footprint Added.; DatasheetVersion: Jan-1995; PackageVersion: 1995; PackageReference: 918-02; Publisher: Altium Limited; PackageDescription: 144-Pin Thin Quad Flat Pack 0.5 mm Pitch; ComponentLink1Description: Manufacturer Link; ComponentLink1URL: http://www.freescale.com/
footprint 918-02_N (Thin QFP, 144-Leads, Body 20x20mm, Pitch 0.5mm, IPC Medium Density)
footprint 918-02_L (Thin QFP, 144-Leads, Body 20x20mm, Pitch 0.5mm, IPC High Density)
footprint 918-02_M (Thin QFP, 144-Leads, Body 20x20mm, Pitch 0.5mm, IPC Low Density)
3D model MC68PM302-918 (144-Pin Thin Quad Flat Pack 0.5 mm Pitch)
part A pins: 1 PC_D0 (io), 2 ~{PC_IORD}/~{DREQ}/PA13 (io), 3 ~{PC_IOWR}/~{DACK}/PA14 (io), 4 ~{PC_WE}/~{DONE}/PA15 (io), 5 ~{PC_REG}/~{UDS}/A0 (io), 7 PC_RDY/~{IREQ}/R/~{W} (io), 8 ~{PC_STSCHG}/~{BR} (out), 10 ~{PC_WAIT}/~{BG} (io), 11 ~{PC_OE}/~{BGACK} (io), 13 ~{PC_CE}1/~{LDS}/~{DS} (io), 14 ~{PC_CE}2/~{IACK}1/PB2 (io), 15 PC_A25/~{IACK}6/PB1 (io), 16 PC_A11/~{IACK}7/PB0 (io), 17 PC_A10/~{TOUT}1/PB4 (io), 20 PC_A9/PDI14 (in), 21 PC_A8/PDI13 (in), 22 PC_A7/PDI12 (in), 23 PC_A6/PDI11 (in), 24 PC_A5/F/R/Z/ (in), 25 ~{EXTAL} (in), 26 PC_A4/~{AVEC} (io), 27 PC_A3/~{BERR} (io), 28 ~{XTAL}, 29 PC_A2/PDI10 (in), 30 PC_A1/PDI9 (in), 31 ~{CLKO} (out), 32 ~{DISCPU} (in), 33 PC_A0/PDI8 (in), 35 ~{XFC}, 36 VCCSYN (power), 37 BRG2/SDS2/PA7/~{PC_}15 (io), 38 ~{CD}2/PA6 (io), 39 ~{RTS}2/PA5 (io), 40 ~{CTS}2/PA4 (io), 43 TCLK2/PA3 (io), 44 RCLK2/PA2 (io), 45 ~{TXD}2/PA1 (io), 46 ~{RXD}2/PA0 (io), 47 NC1, 48 ~{CD}3/SPCLK (io), 49 MODCLK/BRG3/PA12 (io), 50 ~{RTS}3/~{SPTXD} (out), 51 ~{CTS}3/~{SPRXD} (in), 53 ~{RESET} (io), 54 ~{HALT} (io), 55 ~{DTACK} (io), 57 TCLK3/PA11 (io), 58 RCLK3/PA10 (io), 59 ~{TXD}3/PA9 (io), 60 ~{RXD}3/PA8 (io), 62 ~{RTS}1/L1RQ/GCIDL (out), 63 RCLK1/LICLK (io), 64 TCLK1/L1SY0/SDS1 (io), 65 ~{TXD}1/~{L1TXD} (out), 66 ~{RXD}1/~{L1RXD} (in), 67 ~{CTS}1/L1GR (in), 68 ~{CD}1/L1SY1 (in), 69 D0 (io), 70 D1 (io), 71 D2 (io), 72 D3 (io), 74 D4 (io), 75 D5 (io), 76 D6 (io), 77 D7 (io), 79 D8 (io), 80 D9 (io), 81 D10 (io), 82 D11 (io), 84 D12 (io), 85 D13 (io), 86 D14 (io), 87 D15 (io), 88 A19 (io), 89 A18 (io), 90 A17 (io), 91 A16 (io), 92 A15 (io), 93 A14 (io), 95 A13 (io), 98 A12 (io), 99 A11 (io), 100 A10 (io), 102 A9 (io), 103 A8 (io), 104 A7 (io), 105 A6 (io), 106 A5 (io), 107 A4 (io), 109 A3 (io), 110 A2 (io), 111 A1 (io), 112 ~{CS}0/~{IOUT}2 (out), 113 ~{CS}1 (out), 114 ~{CS}2 (out), 115 ~{CS}3 (out), 116 PB11 (io), 117 ~{WDOG}/~{PB}7 (io), 118 ~{PC_EN}/~{TOUT}2/~{PB}6 (io), 120 ~{DTE} (PB10) (io), 121 ~{AS} (io), 122 ~{TIN}1/~{PB}3 (io), 124 ~{RI} (PB9) (io), 125 ~{TRIS}/~{TIN}2/~{PB}5 (io), 126 PB8 (io), 127 ~{IPL}0/~{IRQ}1 (~{BR}) (io), 128 ~{WEH}/A0 (~{UDS}/~{A}0) (io), 130 ~{OE} (R/~{W}) (io), 131 ~{WEL}/~{WE} (~{LDS}/~{DS}) (io), 132 ~{IPL}1/~{IRQ}6 (~{BG}) (in), 133 ~{IPL}2/~{IRQ}7 (~{BGACK}) (io), 134 ~{BUSW/PC_ABUF} (io), 135 NC2, 136 PC_D7/A23 (io), 137 PC_D6/A22 (io), 138 PC_D5/A21 (io), 139 PC_D4/A20 (io), 140 PC_D3/FC2 (io), 141 PC_D2/FC1 (io), 142 PC_D1/FC0 (io)
part B pins: 6 GNDPCC (power), 9 VCCPCC (power), 12 GNDPCC (power), 18 VCCQ (power), 19 GNDQ (power), 34 GNDSYN (power), 41 GNDSP (power), 42 VCCSP (power), 52 GNDS (power), 56 VCCS (power), 61 GNDS (power), 73 GNDD (power), 78 VCCD (power), 83 GNDD (power), 94 GNDA (power), 96 GNDQ (power), 97 VCCQ (power), 101 VCCA (power), 108 GNDA (power), 119 GNDP (power), 123 VCCP (power), 129 GNDP (power), 143 GNDPCD (power), 144 VCCPCD (power)

## MC68SC302PU20
designator U?
Passive ISDN Protocol Engine; Published: 21-Mar-2003; LatestRevisionDate: 13-Apr-2006; LatestRevisionNote: IPC-7351 Footprint Added.; DatasheetVersion: Jan-1997; PackageVersion: 1999; PackageReference: 983-01; Publisher: Altium Limited; PackageDescription: 100-Pin Thin Quad Flat Pack 0.5 mm Pitch; ComponentLink1Description: Manufacturer Link; ComponentLink1URL: http://www.freescale.com/
footprint 983-01_N (Thin QFP, 100-Leads, Body 14x14mm, Pitch 0.5mm, IPC Medium Density)
footprint 983-01_L (Thin QFP, 100-Leads, Body 14x14mm, Pitch 0.5mm, IPC High Density)
footprint 983-01_M (Thin QFP, 100-Leads, Body 14x14mm, Pitch 0.5mm, IPC Low Density)
3D model MC68SC302-983 (100-Pin Thin Quad Flat Pack 0.5 mm Pitch)
part A pins: 1 SA5/PC_A5 (in), 2 SA4/PC_A4 (in), 3 SA3/PC_A3 (in), 4 SA2/PC_A2 (in), 5 SA1/PC_A1 (in), 6 SA0/PC_A0 (in), 7 ~{SBHE}/~{PC_CE}2 (in), 8 ~{MEMR}/~{PC_OE} (in), 9 ~{MEMW}/~{PC_WE} (in), 12 SD8/PC_D8/IRQ14 (io), 13 SD9/PC_D9/IRQ6 (io), 14 SD10/PC_D10/IRQ5 (io), 15 SD11/PC_D11 (io), 19 SD12/PC_D12 (io), 20 SD13/PC_D13 (io), 21 SD14/PC_D14 (io), 22 SD15/PC_D15 (io), 23 LA23/PC_A23/IRQIN5/PA15 (io), 24 LA22/PC_A22/IRQIN4/PA14 (io), 25 LA21/PC_A21/IRQIN3/PA13 (io), 26 LA20/PC_A20/IRQIN2/PA12 (io), 27 ~{NMSICS}/PA(11) (io), 28 IRQIN4/~{RI}/PA(10) (io), 29 IRQIN3/SDS2/PA(9) (io), 30 IRQIN2/FSYN/SDS1/PA(8) (io), 31 IRQIN1/SCLK/CLKRX/PA(7) (io), 35 MCLK/CLKTX/PA(6) (io), 36 TXD/PA(5) (io), 37 RXD/PA(4) (io), 38 ~{SCPEN}3/PA(3) (io), 39 ~{E2EN}/PA(0) (io), 40 L1RQ/GCIDCL (out), 41 PSYNC/L1GRNT (in), 42 L1CLK (io), 43 L1RXD (in), 44 L1TXD (hiz), 45 L1SYNC (in), 46 IRQIN5/~{SCPEN}1/PA(1) (io), 47 SCPCLK (out), 48 SCPRXD (in), 49 SCPTXD (out), 50 IRQIN6/~{SCPEN}2/PA(2) (io), 51 SD7/PC_D7 (io), 52 SD6/PC_D6 (io), 53 SD5/PC_D5 (io), 54 SD4/PC_D4 (io), 58 SD3/PC_D3 (io), 59 SD2/PC_D2 (io), 60 SD1/PC_D1 (io), 61 SD0/PC_D0 (io), 64 IRQ3/PC_READY/~{IREQ} (out), 65 IRQ4/~{IOCS}16/~{PC_STSCHG} (out), 66 IRQ7/~{MEMCS}16/~{PC_CISCS} (out), 67 IRQ12/IRQSEL0 (out), 71 IRQ9/IRQSEL3 (out), 72 IRQ10/IRQSEL2 (out), 73 IRQ11/IRQSEL1 (out), 74 IRQ5/~{IOCHRDY}/~{PC_WAIT} (out), 75 IRQ15/IRQO (out), 76 ~{REF}/~{PC_REG} (in), 77 ~{IOR}/PC_E2E (in), 78 ~{IOW}/~{PC_MODE} (in), 79 AEN/~{PC_A}25 (in), 80 BALE/~{PC_CE}1 (in), 81 LA19/PC_A19/IRQIN1 (in), 82 LA18/PC_A18 (in), 83 LA17/PC_A17 (in), 84 SA16/PC_A16 (in), 85 SA15/PC_A15 (in), 86 SA14/PC_A14 (in), 87 SA13/PC_A13 (in), 89 CLKOUT (out), 91 XTAL, 92 EXTAL (in), 93 RESET (in), 94 SA12/PC_A12 (in), 95 SA11/PC_A11 (in), 96 SA10/PC_A10 (in), 97 SA9/PC_A9 (in), 98 SA8/PC_A8 (in), 99 SA7/PC_A7 (in), 100 SA6/PC_A6 (in)
part B pins: 10 VCC (power), 11 GND (power), 16 GND (power), 17 GND (power), 18 VCC (power), 32 GND (power), 33 GND (power), 34 VCC (power), 55 VCC (power), 56 GND (power), 57 GND (power), 62 GND (power), 63 VCC (power), 68 VCC (power), 69 GND (power), 70 GND (power), 88 VCC (power), 90 GND (power)

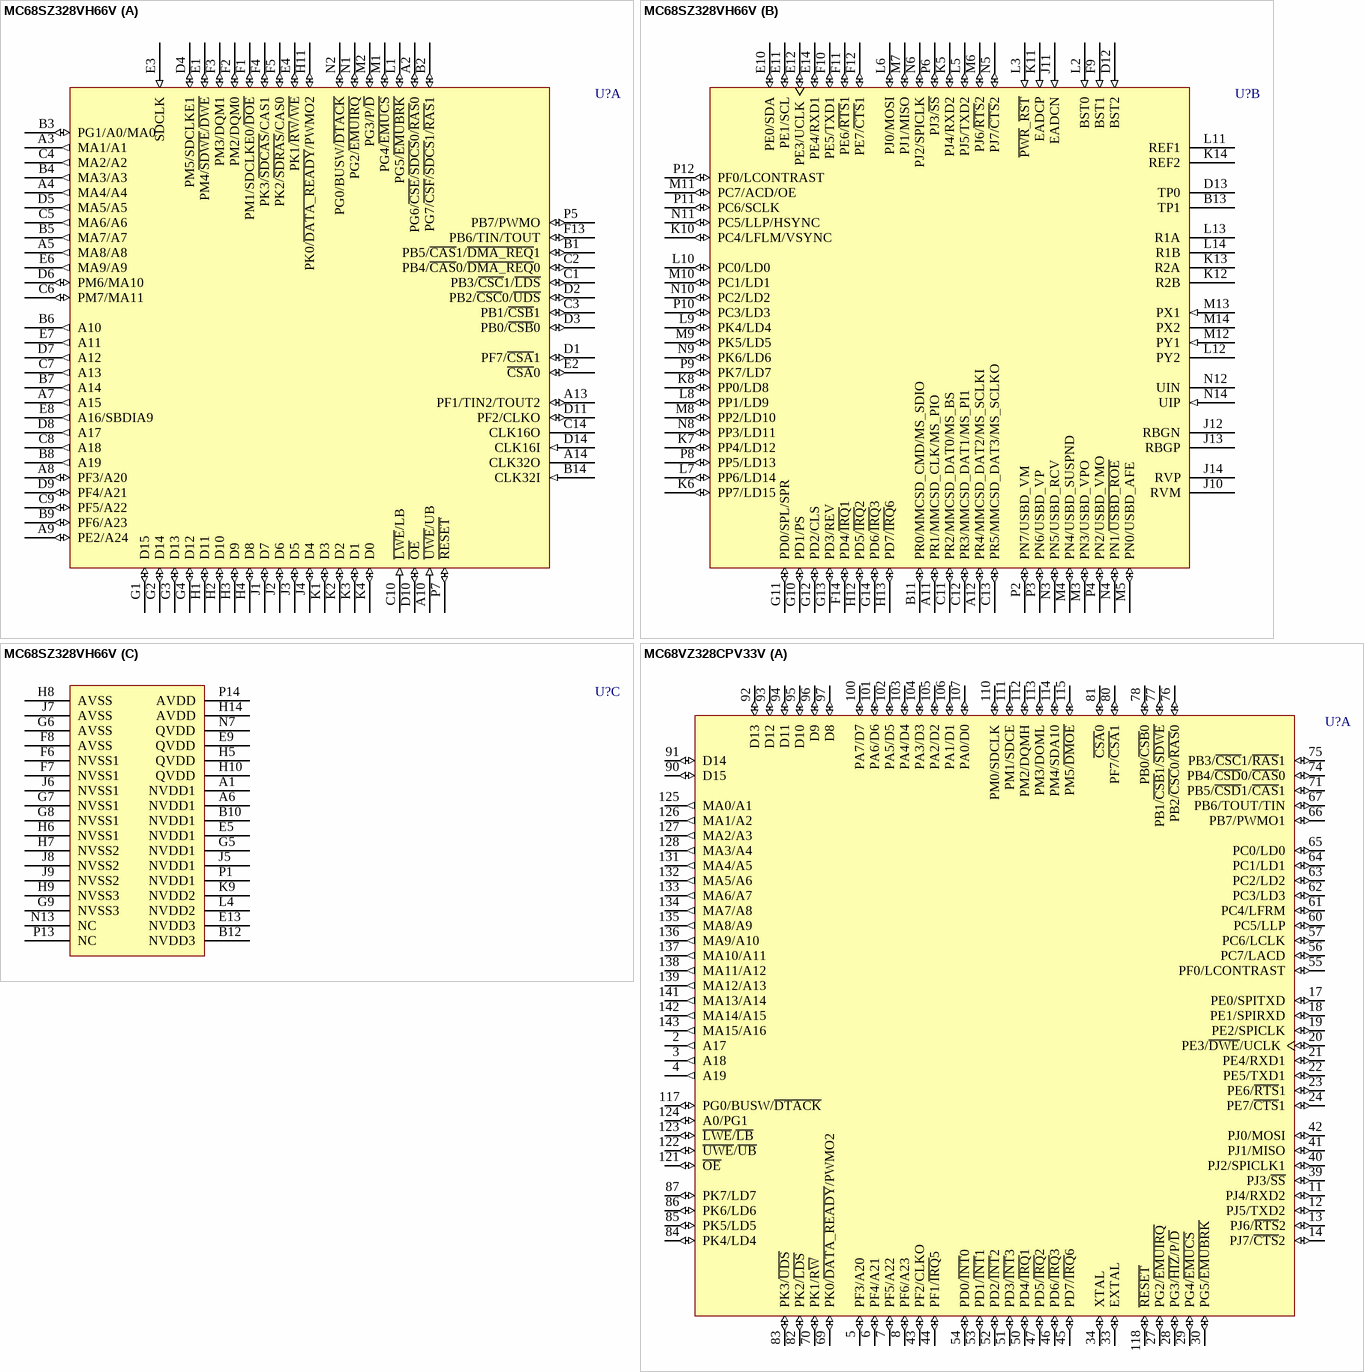
[diagram p67: symbols MC68SZ328VH66V to MC68VZ328CPV33V]

## MC68SZ328VH66V
designator U?
Integrated Processor; Published: 21-Mar-2003; LatestRevisionDate: 13-Apr-2006; LatestRevisionNote: IPC-7351 Footprint Added.; DatasheetVersion: 25-Feb-2002; PackageVersion: rev1.1, Feb-2002; PackageReference: 1267A-02; Publisher: Altium Limited; PackageDescription: 196-Ball MAP-Ball Grid Array 0.8 mm Pitch; ComponentLink1Description: Manufacturer Link; ComponentLink1URL: http://www.freescale.com/
footprint 1267A-02 (BGA, 196-Leads, Body 12x12mm, Pitch 0.8mm)
3D model MC68SZ328-1267A-02 (196-Ball MAP-Ball Grid Array 0.8 mm Pitch)
part A pins: A2 PG6/~{CSE}/~{SDCS}0/~{RAS}0 (io), A3 MA1/A1 (out), A4 MA4/A4 (out), A5 MA8/A8 (out), A7 A15 (out), A8 PF3/A20 (io), A9 PE2/A24 (io), A10 ~{UWE}/UB (in), A13 PF1/TIN2/TOUT2 (io), A14 CLK32O, B1 PB5/~{CAS}1/~{DMA_REQ}1 (io), B2 PG7/~{CSF}/~{SDCS}1/~{RAS}1 (io), B3 PG1/A0/MA0 (io), B4 MA3/A3 (out), B5 MA7/A7 (out), B6 A10 (out), B7 A14 (out), B8 A19 (out), B9 PF6/A23 (io), B14 CLK32I (in), C1 PB3/~{CSC}1/~{LDS} (io), C2 PB4/~{CAS}0/~{DMA_REQ}0 (io), C3 PB1/~{CSB}1 (io), C4 MA2/A2 (out), C5 MA6/A6 (out), C6 PM7/MA11 (io), C7 A13 (out), C8 A18 (out), C9 PF5/A22 (io), C10 ~{LWE}/LB (in), C14 CLK16O, D1 PF7/~{CSA}1 (io), D2 PB2/~{CSC}0/~{UDS} (io), D3 PB0/~{CSB}0 (io), D4 PM5/SDCLKE1 (io), D5 MA5/A5 (out), D6 PM6/MA10 (io), D7 A12 (out), D8 A17 (out), D9 PF4/A21 (io), D10 ~{OE} (io), D11 PF2/CLKO (io), D14 CLK16I (in), E1 PM4/~{SDWE}/~{DWE} (io), E2 ~{CSA}0 (io), E3 SDCLK (in), E4 PK1/~{RW}/~{WE} (io), E6 MA9/A9 (out), E7 A11 (out), E8 A16/SBDIA9 (out), F1 PM1/SDCLKE0/~{DOE} (io), F2 PM2/DQM0 (io), F3 PM3/DQM1 (io), F4 PK3/~{SDCAS}/CAS1 (io), F5 PK2/~{SDRAS}/CAS0 (io), F13 PB6/TIN/TOUT (io), G1 D15 (io), G2 D14 (io), G3 D13 (io), G4 D12 (io), H1 D11 (io), H2 D10 (io), H3 D9 (io), H4 D8 (io), H11 PK0/~{DATA_READY}/PWMO2 (io), J1 D7 (io), J2 D6 (io), J3 D5 (io), J4 D4 (io), K1 D3 (io), K2 D2 (io), K3 D1 (io), K4 D0 (io), L1 PG5/~{EMUBRK} (io), M1 PG4/~{EMUCS} (io), M2 PG3/P/~{D} (io), N1 PG2/~{EMUIRQ} (io), N2 PG0/BUSW/~{DTACK} (io), P5 PB7/PWMO (io), P7 ~{RESET} (io)
part B pins: A11 PR1/MMCSD_CLK/MS_PIO (io), A12 PR4/MMCSD_DAT2/MS_SCLKI (io), B11 PR0/MMCSD_CMD/MS_SDIO (io), B13 TP1, C11 PR2/MMCSD_DAT0/MS_BS (io), C12 PR3/MMCSD_DAT1/MS_PI1 (io), C13 PR5/MMCSD_DAT3/MS_SCLKO (io), D12 BST2 (in), D13 TP0, E10 PE0/SDA (io), E11 PE1/SCL (io), E12 PE3/UCLK (io), E14 PE4/RXD1 (io), F9 BST1 (in), F10 PE5/TXD1 (io), F11 PE6/~{RTS}1 (io), F12 PE7/~{CTS}1 (io), F14 PD4/~{IRQ}1 (io), G10 PD1/PS (io), G11 PD0/SPL/SPR (io), G12 PD2/CLS (io), G13 PD3/REV (io), G14 PD6/~{IRQ}3 (io), H12 PD5/~{IRQ}2 (io), H13 PD7/~{IRQ}6 (io), J10 RVM, J11 EADCN (in), J12 RBGN, J13 RBGP, J14 RVP, K5 PJ4/RXD2 (io), K6 PP7/LD15 (io), K7 PP4/LD12 (io), K8 PP0/LD8 (io), K10 PC4/LFLM/VSYNC (io), K11 EADCP (in), K12 R2B, K13 R2A, K14 REF2, L2 BST0 (in), L3 ~{PWR}_~{RST} (in), L5 PJ5/TXD2 (io), L6 PJ0/MOSI (io), L7 PP6/LD14 (io), L8 PP1/LD9 (io), L9 PK4/LD4 (io), L10 PC0/LD0 (io), L11 REF1, L12 PY2, L13 R1A, L14 R1B, M3 PN3/USBD_VPO (io), M4 PN4/USBD_SUSPND (io), M5 PN0/USBD_AFE (io), M6 PJ6/~{RTS}2 (io), M7 PJ1/MISO (io), M8 PP2/LD10 (io), M9 PK5/LD5 (io), M10 PC1/LD1 (io), M11 PC7/ACD/OE (io), M12 PY1 (in), M13 PX1 (in), M14 PX2, N3 PN5/USBD_RCV (io), N4 PN1/~{USBD_ROE} (io), N5 PJ7/~{CTS}2 (io), N6 PJ2/SPICLK (io), N8 PP3/LD11 (io), N9 PK6/LD6 (io), N10 PC2/LD2 (io), N11 PC5/LLP/HSYNC (io), N12 UIN, N14 UIP (in), P2 PN7/USBD_VM (io), P3 PN6/USBD_VP (io), P4 PN2/USBD_VMO (io), P6 PJ3/~{SS} (io), P8 PP5/LD13 (io), P9 PK7/LD7 (io), P10 PC3/LD3 (io), P11 PC6/SCLK (io), P12 PF0/LCONTRAST (io)
part C pins: A1 NVDD1 (power), A6 NVDD1 (power), B10 NVDD1 (power), B12 NVDD3 (power), E5 NVDD1 (power), E9 QVDD (power), E13 NVDD3 (power), F6 NVSS1 (power), F7 NVSS1 (power), F8 AVSS (power), G5 NVDD1 (power), G6 AVSS (power), G7 NVSS1 (power), G8 NVSS1 (power), G9 NVSS3 (power), H5 QVDD (power), H6 NVSS1 (power), H7 NVSS2 (power), H8 AVSS (power), H9 NVSS3 (power), H10 QVDD (power), H14 AVDD (power), J5 NVDD1 (power), J6 NVSS1 (power), J7 AVSS (power), J8 NVSS2 (power), J9 NVSS2 (power), K9 NVDD2 (power), L4 NVDD2 (power), N7 QVDD (power), N13 NC, P1 NVDD1 (power), P13 NC, P14 AVDD (power)

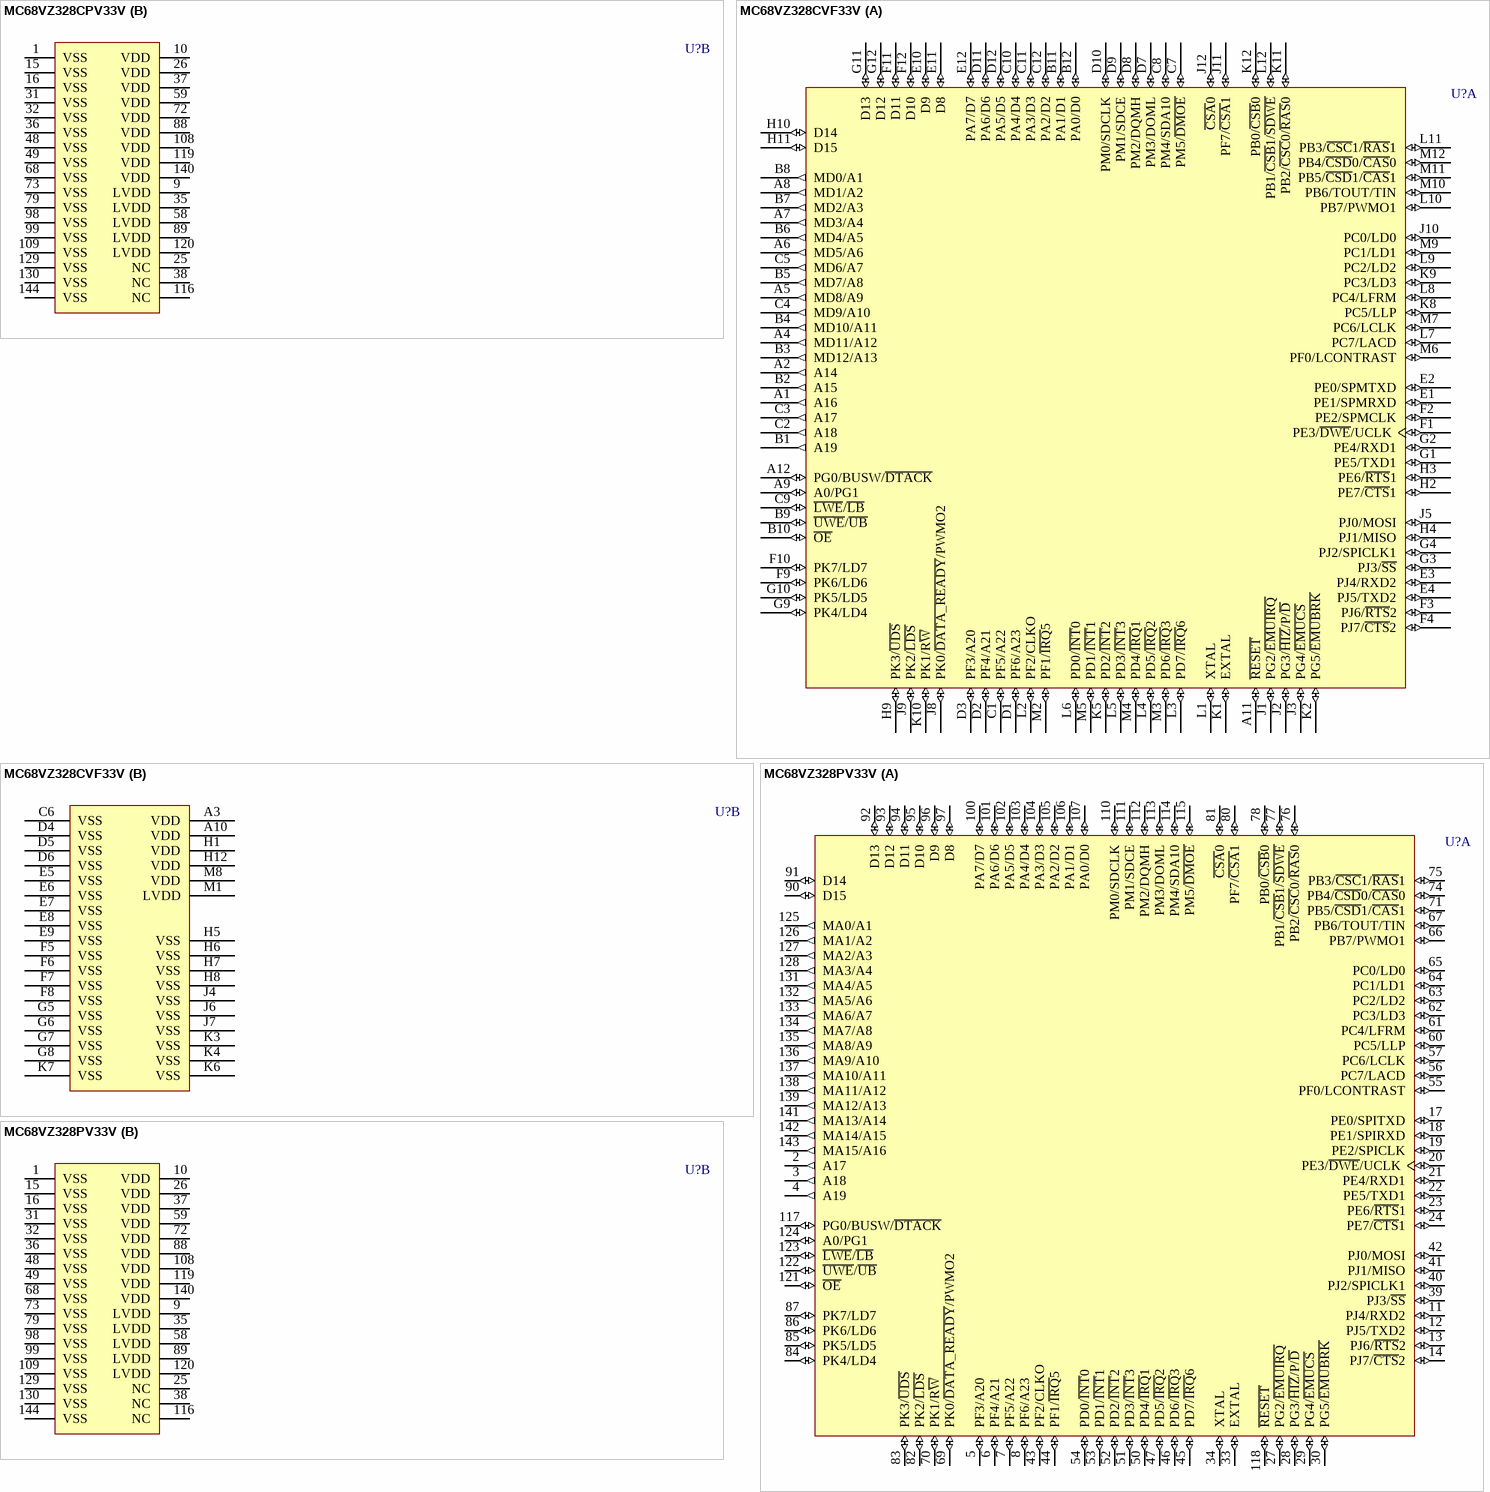
[diagram p68: symbols MC68VZ328CPV33V to MC68VZ328PV33V]

## MC68VZ328CPV33V
designator U?
Integrated Processor; Published: 21-Mar-2003; LatestRevisionDate: 13-Apr-2006; LatestRevisionNote: IPC-7351 Footprint Added.; DatasheetVersion: 16-Mar-2000; PackageVersion: rev7, Jan-2002; PackageReference: 918-03; Publisher: Altium Limited; PackageDescription: 144-Pin Thin Quad Flat Pack 0.5 mm Pitch; ComponentLink1Description: Manufacturer Link; ComponentLink1URL: http://www.freescale.com/
footprint 918-03_N (Thin QFP, 144-Leads, Body 20x20mm, Pitch 0.5mm, IPC Medium Density)
footprint 918-03_L (Thin QFP, 144-Leads, Body 20x20mm, Pitch 0.5mm, IPC High Density)
footprint 918-03_M (Thin QFP, 144-Leads, Body 20x20mm, Pitch 0.5mm, IPC Low Density)
3D model MC68VZ328-918 (144-Pin Thin Quad Flat Pack 0.5 mm Pitch)
part A pins: 2 A17 (out), 3 A18 (out), 4 A19 (out), 5 PF3/A20 (io), 6 PF4/A21 (io), 7 PF5/A22 (io), 8 PF6/A23 (io), 11 PJ4/RXD2 (io), 12 PJ5/TXD2 (io), 13 PJ6/~{RTS}2 (io), 14 PJ7/~{CTS}2 (io), 17 PE0/SPITXD (io), 18 PE1/SPIRXD (io), 19 PE2/SPICLK (io), 20 PE3/~{DWE}/UCLK (io), 21 PE4/RXD1 (io), 22 PE5/TXD1 (io), 23 PE6/~{RTS}1 (io), 24 PE7/~{CTS}1 (io), 27 PG2/~{EMUIRQ} (io), 28 PG3/~{HIZ}/P/~{D} (io), 29 PG4/~{EMUCS} (io), 30 PG5/~{EMUBRK} (io), 33 EXTAL (io), 34 XTAL (io), 39 PJ3/~{SS} (io), 40 PJ2/SPICLK1 (io), 41 PJ1/MISO (io), 42 PJ0/MOSI (io), 43 PF2/CLKO (io), 44 PF1/~{IRQ}5 (io), 45 PD7/~{IRQ}6 (io), 46 PD6/~{IRQ}3 (io), 47 PD5/~{IRQ}2 (io), 50 PD4/~{IRQ}1 (io), 51 PD3/~{INT}3 (io), 52 PD2/~{INT}2 (io), 53 PD1/~{INT}1 (io), 54 PD0/~{INT}0 (io), 55 PF0/LCONTRAST (io), 56 PC7/LACD (io), 57 PC6/LCLK (io), 60 PC5/LLP (io), 61 PC4/LFRM (io), 62 PC3/LD3 (io), 63 PC2/LD2 (io), 64 PC1/LD1 (io), 65 PC0/LD0 (io), 66 PB7/PWMO1 (io), 67 PB6/TOUT/TIN (io), 69 PK0/~{DATA_READY}/PWMO2 (io), 70 PK1/R~{W} (io), 71 PB5/~{CSD}1/~{CAS}1 (io), 74 PB4/~{CSD}0/~{CAS}0 (io), 75 PB3/~{CSC}1/~{RAS}1 (io), 76 PB2/~{CSC}0/~{RAS}0 (io), 77 PB1/~{CSB}1/~{SDWE} (io), 78 PB0/~{CSB}0 (io), 80 PF7/~{CSA}1 (io), 81 ~{CSA}0 (io), 82 PK2/~{LDS} (io), 83 PK3/~{UDS} (io), 84 PK4/LD4 (io), 85 PK5/LD5 (io), 86 PK6/LD6 (io), 87 PK7/LD7 (io), 90 D15 (io), 91 D14 (io), 92 D13 (io), 93 D12 (io), 94 D11 (io), 95 D10 (io), 96 D9 (io), 97 D8 (io), 100 PA7/D7 (io), 101 PA6/D6 (io), 102 PA5/D5 (io), 103 PA4/D4 (io), 104 PA3/D3 (io), 105 PA2/D2 (io), 106 PA1/D1 (io), 107 PA0/D0 (io), 110 PM0/SDCLK (io), 111 PM1/SDCE (io), 112 PM2/DQMH (io), 113 PM3/DOML (io), 114 PM4/SDA10 (io), 115 PM5/~{DMOE} (io), 117 PG0/BUSW/~{DTACK} (io), 118 ~{RESET} (io), 121 ~{OE} (io), 122 ~{UWE}/~{UB} (io), 123 ~{LWE}/~{LB} (io), 124 A0/PG1 (io), 125 MA0/A1 (out), 126 MA1/A2 (out), 127 MA2/A3 (out), 128 MA3/A4 (out), 131 MA4/A5 (out), 132 MA5/A6 (out), 133 MA6/A7 (out), 134 MA7/A8 (out), 135 MA8/A9 (out), 136 MA9/A10 (out), 137 MA10/A11 (out), 138 MA11/A12 (out), 139 MA12/A13 (out), 141 MA13/A14 (out), 142 MA14/A15 (out), 143 MA15/A16 (out)
part B pins: 1 VSS (power), 9 LVDD (power), 10 VDD (power), 15 VSS (power), 16 VSS (power), 25 NC, 26 VDD (power), 31 VSS (power), 32 VSS (power), 35 LVDD (power), 36 VSS (power), 37 VDD (power), 38 NC, 48 VSS (power), 49 VSS (power), 58 LVDD (power), 59 VDD (power), 68 VSS (power), 72 VDD (power), 73 VSS (power), 79 VSS (power), 88 VDD (power), 89 LVDD (power), 98 VSS (power), 99 VSS (power), 108 VDD (power), 109 VSS (power), 116 NC, 119 VDD (power), 120 LVDD (power), 129 VSS (power), 130 VSS (power), 140 VDD (power), 144 VSS (power)

## MC68VZ328CVF33V
designator U?
Integrated Processor; Published: 21-Mar-2003; LatestRevisionDate: 13-Apr-2006; LatestRevisionNote: IPC-7351 Footprint Added.; DatasheetVersion: 16-Mar-2000; PackageVersion: rev1, Jan-2002; PackageReference: 1242A-03; Publisher: Altium Limited; PackageDescription: 144-Ball MAP-Ball Grid Array 1 mm Pitch; ComponentLink1Description: Manufacturer Link; ComponentLink1URL: http://www.freescale.com/
footprint 1242A-03 (BGA, 144-Leads, Body 13x13mm, Pitch 1mm)
3D model MC68VZ328-1242A-03 (144-Ball MAP-Ball Grid Array 1 mm Pitch)
part A pins: A1 A16 (out), A2 A14 (out), A4 MD11/A12 (out), A5 MD8/A9 (out), A6 MD5/A6 (out), A7 MD3/A4 (out), A8 MD1/A2 (out), A9 A0/PG1 (io), A11 ~{RESET} (io), A12 PG0/BUSW/~{DTACK} (io), B1 A19 (out), B2 A15 (out), B3 MD12/A13 (out), B4 MD10/A11 (out), B5 MD7/A8 (out), B6 MD4/A5 (out), B7 MD2/A3 (out), B8 MD0/A1 (out), B9 ~{UWE}/~{UB} (io), B10 ~{OE} (io), B11 PA1/D1 (io), B12 PA0/D0 (io), C1 PF5/A22 (io), C2 A18 (out), C3 A17 (out), C4 MD9/A10 (out), C5 MD6/A7 (out), C7 PM5/~{DMOE} (io), C8 PM4/SDA10 (io), C9 ~{LWE}/~{LB} (io), C10 PA4/D4 (io), C11 PA3/D3 (io), C12 PA2/D2 (io), D1 PF6/A23 (io), D2 PF4/A21 (io), D3 PF3/A20 (io), D7 PM3/DOML (io), D8 PM2/DQMH (io), D9 PM1/SDCE (io), D10 PM0/SDCLK (io), D11 PA6/D6 (io), D12 PA5/D5 (io), E1 PE1/SPMRXD (io), E2 PE0/SPMTXD (io), E3 PJ4/RXD2 (io), E4 PJ5/TXD2 (io), E10 D9 (io), E11 D8 (io), E12 PA7/D7 (io), F1 PE3/~{DWE}/UCLK (io), F2 PE2/SPMCLK (io), F3 PJ6/~{RTS}2 (io), F4 PJ7/~{CTS}2 (io), F9 PK6/LD6 (io), F10 PK7/LD7 (io), F11 D11 (io), F12 D10 (io), G1 PE5/TXD1 (io), G2 PE4/RXD1 (io), G3 PJ3/~{SS} (io), G4 PJ2/SPICLK1 (io), G9 PK4/LD4 (io), G10 PK5/LD5 (io), G11 D13 (io), G12 D12 (io), H2 PE7/~{CTS}1 (io), H3 PE6/~{RTS}1 (io), H4 PJ1/MISO (io), H9 PK3/~{UDS} (io), H10 D14 (io), H11 D15 (io), J1 PG2/~{EMUIRQ} (io), J2 PG3/~{HIZ}/P/~{D} (io), J3 PG4/~{EMUCS} (io), J5 PJ0/MOSI (io), J8 PK0/~{DATA_READY}/PWMO2 (io), J9 PK2/~{LDS} (io), J10 PC0/LD0 (io), J11 PF7/~{CSA}1 (io), J12 ~{CSA}0 (io), K1 EXTAL (io), K2 PG5/~{EMUBRK} (io), K5 PD2/~{INT}2 (io), K8 PC5/LLP (io), K9 PC3/LD3 (io), K10 PK1/R~{W} (io), K11 PB2/~{CSC}0/~{RAS}0 (io), K12 PB0/~{CSB}0 (io), L1 XTAL (io), L2 PF2/CLKO (io), L3 PD7/~{IRQ}6 (io), L4 PD5/~{IRQ}2 (io), L5 PD3/~{INT}3 (io), L6 PD0/~{INT}0 (io), L7 PC7/LACD (io), L8 PC4/LFRM (io), L9 PC2/LD2 (io), L10 PB7/PWMO1 (io), L11 PB3/~{CSC}1/~{RAS}1 (io), L12 PB1/~{CSB}1/~{SDWE} (io), M2 PF1/~{IRQ}5 (io), M3 PD6/~{IRQ}3 (io), M4 PD4/~{IRQ}1 (io), M5 PD1/~{INT}1 (io), M6 PF0/LCONTRAST (io), M7 PC6/LCLK (io), M9 PC1/LD1 (io), M10 PB6/TOUT/TIN (io), M11 PB5/~{CSD}1/~{CAS}1 (io), M12 PB4/~{CSD}0/~{CAS}0 (io)
part B pins: A3 VDD (power), A10 VDD (power), C6 VSS (power), D4 VSS (power), D5 VSS (power), D6 VSS (power), E5 VSS (power), E6 VSS (power), E7 VSS (power), E8 VSS (power), E9 VSS (power), F5 VSS (power), F6 VSS (power), F7 VSS (power), F8 VSS (power), G5 VSS (power), G6 VSS (power), G7 VSS (power), G8 VSS (power), H1 VDD (power), H5 VSS (power), H6 VSS (power), H7 VSS (power), H8 VSS (power), H12 VDD (power), J4 VSS (power), J6 VSS (power), J7 VSS (power), K3 VSS (power), K4 VSS (power), K6 VSS (power), K7 VSS (power), M1 LVDD (power), M8 VDD (power)

## MC68VZ328PV33V
designator U?
Integrated Processor; Published: 21-Mar-2003; LatestRevisionDate: 13-Apr-2006; LatestRevisionNote: IPC-7351 Footprint Added.; DatasheetVersion: 16-Mar-2000; PackageVersion: rev7, Jan-2002; PackageReference: 918-03; Publisher: Altium Limited; PackageDescription: 144-Pin Thin Quad Flat Pack 0.5 mm Pitch; ComponentLink1Description: Manufacturer Link; ComponentLink1URL: http://www.freescale.com/
footprint 918-03_N (Thin QFP, 144-Leads, Body 20x20mm, Pitch 0.5mm, IPC Medium Density)
footprint 918-03_L (Thin QFP, 144-Leads, Body 20x20mm, Pitch 0.5mm, IPC High Density)
footprint 918-03_M (Thin QFP, 144-Leads, Body 20x20mm, Pitch 0.5mm, IPC Low Density)
3D model MC68VZ328-918 (144-Pin Thin Quad Flat Pack 0.5 mm Pitch)
part A pins: 2 A17 (out), 3 A18 (out), 4 A19 (out), 5 PF3/A20 (io), 6 PF4/A21 (io), 7 PF5/A22 (io), 8 PF6/A23 (io), 11 PJ4/RXD2 (io), 12 PJ5/TXD2 (io), 13 PJ6/~{RTS}2 (io), 14 PJ7/~{CTS}2 (io), 17 PE0/SPITXD (io), 18 PE1/SPIRXD (io), 19 PE2/SPICLK (io), 20 PE3/~{DWE}/UCLK (io), 21 PE4/RXD1 (io), 22 PE5/TXD1 (io), 23 PE6/~{RTS}1 (io), 24 PE7/~{CTS}1 (io), 27 PG2/~{EMUIRQ} (io), 28 PG3/~{HIZ}/P/~{D} (io), 29 PG4/~{EMUCS} (io), 30 PG5/~{EMUBRK} (io), 33 EXTAL (io), 34 XTAL (io), 39 PJ3/~{SS} (io), 40 PJ2/SPICLK1 (io), 41 PJ1/MISO (io), 42 PJ0/MOSI (io), 43 PF2/CLKO (io), 44 PF1/~{IRQ}5 (io), 45 PD7/~{IRQ}6 (io), 46 PD6/~{IRQ}3 (io), 47 PD5/~{IRQ}2 (io), 50 PD4/~{IRQ}1 (io), 51 PD3/~{INT}3 (io), 52 PD2/~{INT}2 (io), 53 PD1/~{INT}1 (io), 54 PD0/~{INT}0 (io), 55 PF0/LCONTRAST (io), 56 PC7/LACD (io), 57 PC6/LCLK (io), 60 PC5/LLP (io), 61 PC4/LFRM (io), 62 PC3/LD3 (io), 63 PC2/LD2 (io), 64 PC1/LD1 (io), 65 PC0/LD0 (io), 66 PB7/PWMO1 (io), 67 PB6/TOUT/TIN (io), 69 PK0/~{DATA_READY}/PWMO2 (io), 70 PK1/R~{W} (io), 71 PB5/~{CSD}1/~{CAS}1 (io), 74 PB4/~{CSD}0/~{CAS}0 (io), 75 PB3/~{CSC}1/~{RAS}1 (io), 76 PB2/~{CSC}0/~{RAS}0 (io), 77 PB1/~{CSB}1/~{SDWE} (io), 78 PB0/~{CSB}0 (io), 80 PF7/~{CSA}1 (io), 81 ~{CSA}0 (io), 82 PK2/~{LDS} (io), 83 PK3/~{UDS} (io), 84 PK4/LD4 (io), 85 PK5/LD5 (io), 86 PK6/LD6 (io), 87 PK7/LD7 (io), 90 D15 (io), 91 D14 (io), 92 D13 (io), 93 D12 (io), 94 D11 (io), 95 D10 (io), 96 D9 (io), 97 D8 (io), 100 PA7/D7 (io), 101 PA6/D6 (io), 102 PA5/D5 (io), 103 PA4/D4 (io), 104 PA3/D3 (io), 105 PA2/D2 (io), 106 PA1/D1 (io), 107 PA0/D0 (io), 110 PM0/SDCLK (io), 111 PM1/SDCE (io), 112 PM2/DQMH (io), 113 PM3/DOML (io), 114 PM4/SDA10 (io), 115 PM5/~{DMOE} (io), 117 PG0/BUSW/~{DTACK} (io), 118 ~{RESET} (io), 121 ~{OE} (io), 122 ~{UWE}/~{UB} (io), 123 ~{LWE}/~{LB} (io), 124 A0/PG1 (io), 125 MA0/A1 (out), 126 MA1/A2 (out), 127 MA2/A3 (out), 128 MA3/A4 (out), 131 MA4/A5 (out), 132 MA5/A6 (out), 133 MA6/A7 (out), 134 MA7/A8 (out), 135 MA8/A9 (out), 136 MA9/A10 (out), 137 MA10/A11 (out), 138 MA11/A12 (out), 139 MA12/A13 (out), 141 MA13/A14 (out), 142 MA14/A15 (out), 143 MA15/A16 (out)
part B pins: 1 VSS (power), 9 LVDD (power), 10 VDD (power), 15 VSS (power), 16 VSS (power), 25 NC, 26 VDD (power), 31 VSS (power), 32 VSS (power), 35 LVDD (power), 36 VSS (power), 37 VDD (power), 38 NC, 48 VSS (power), 49 VSS (power), 58 LVDD (power), 59 VDD (power), 68 VSS (power), 72 VDD (power), 73 VSS (power), 79 VSS (power), 88 VDD (power), 89 LVDD (power), 98 VSS (power), 99 VSS (power), 108 VDD (power), 109 VSS (power), 116 NC, 119 VDD (power), 120 LVDD (power), 129 VSS (power), 130 VSS (power), 140 VDD (power), 144 VSS (power)

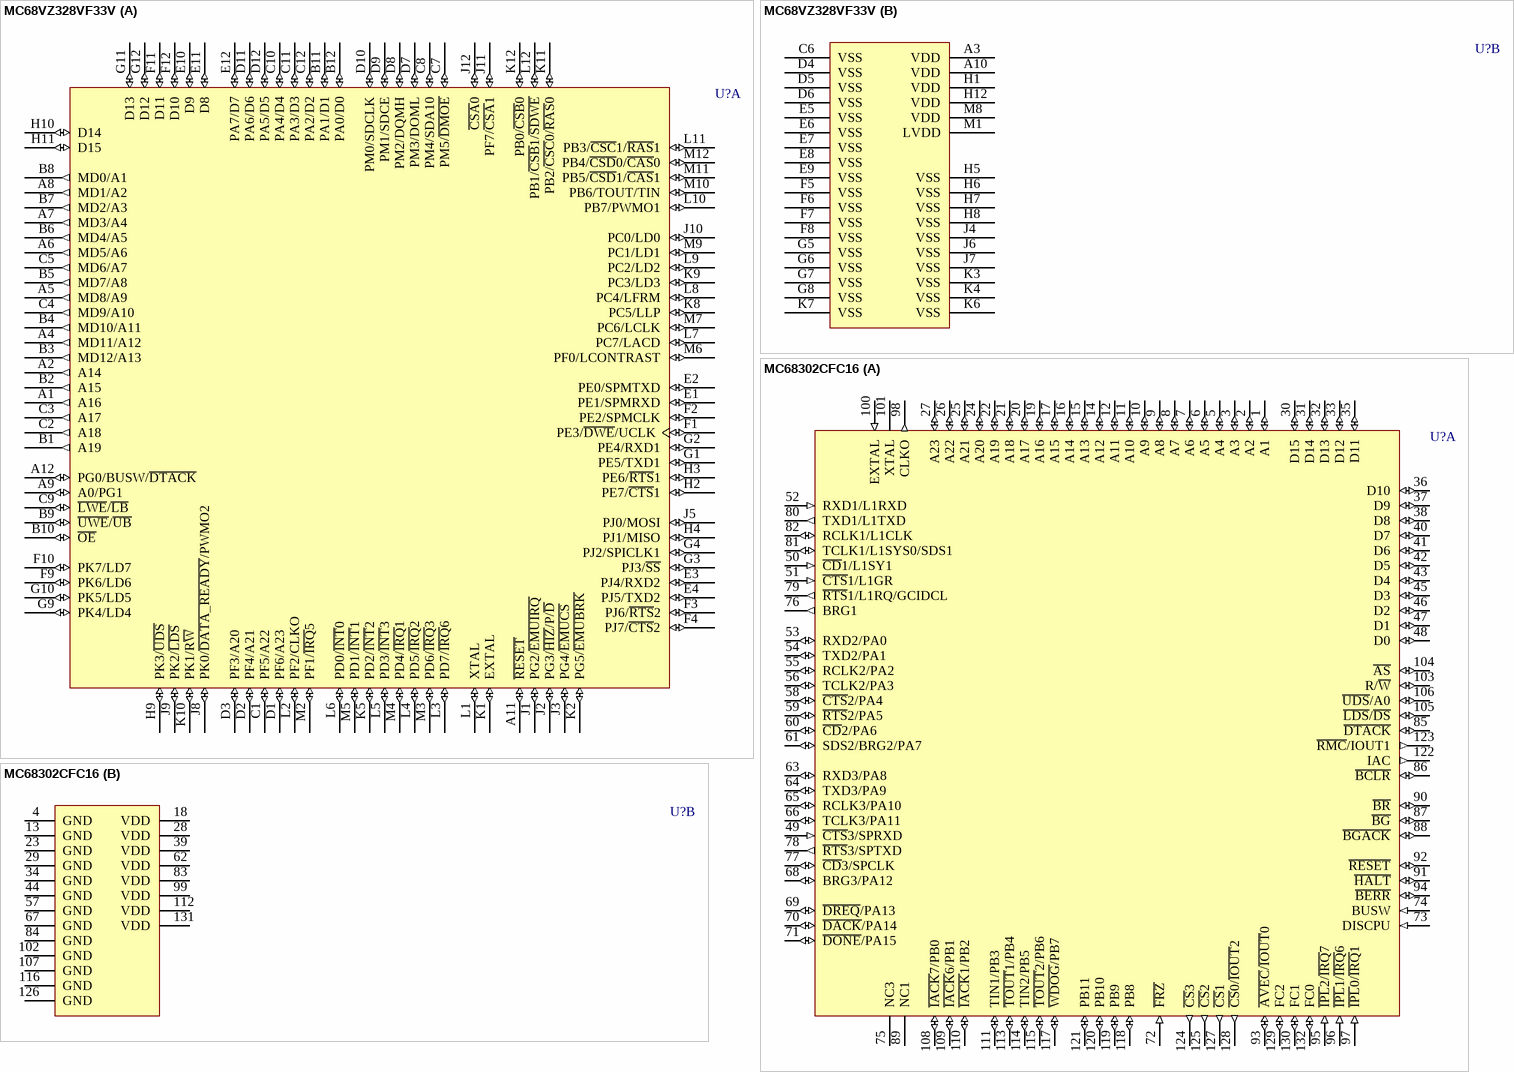
[diagram p69: symbols MC68VZ328VF33V to MC68302CFC16]

## MC68VZ328VF33V
designator U?
Integrated Processor; Published: 21-Mar-2003; LatestRevisionDate: 13-Apr-2006; LatestRevisionNote: IPC-7351 Footprint Added.; DatasheetVersion: 16-Mar-2000; PackageVersion: rev1, Jan-2002; PackageReference: 1242A-03; Publisher: Altium Limited; PackageDescription: 144-Ball MAP-Ball Grid Array 1 mm Pitch; ComponentLink1Description: Manufacturer Link; ComponentLink1URL: http://www.freescale.com/
footprint 1242A-03 (BGA, 144-Leads, Body 13x13mm, Pitch 1mm)
3D model MC68VZ328-1242A-03 (144-Ball MAP-Ball Grid Array 1 mm Pitch)
part A pins: A1 A16 (out), A2 A14 (out), A4 MD11/A12 (out), A5 MD8/A9 (out), A6 MD5/A6 (out), A7 MD3/A4 (out), A8 MD1/A2 (out), A9 A0/PG1 (io), A11 ~{RESET} (io), A12 PG0/BUSW/~{DTACK} (io), B1 A19 (out), B2 A15 (out), B3 MD12/A13 (out), B4 MD10/A11 (out), B5 MD7/A8 (out), B6 MD4/A5 (out), B7 MD2/A3 (out), B8 MD0/A1 (out), B9 ~{UWE}/~{UB} (io), B10 ~{OE} (io), B11 PA1/D1 (io), B12 PA0/D0 (io), C1 PF5/A22 (io), C2 A18 (out), C3 A17 (out), C4 MD9/A10 (out), C5 MD6/A7 (out), C7 PM5/~{DMOE} (io), C8 PM4/SDA10 (io), C9 ~{LWE}/~{LB} (io), C10 PA4/D4 (io), C11 PA3/D3 (io), C12 PA2/D2 (io), D1 PF6/A23 (io), D2 PF4/A21 (io), D3 PF3/A20 (io), D7 PM3/DOML (io), D8 PM2/DQMH (io), D9 PM1/SDCE (io), D10 PM0/SDCLK (io), D11 PA6/D6 (io), D12 PA5/D5 (io), E1 PE1/SPMRXD (io), E2 PE0/SPMTXD (io), E3 PJ4/RXD2 (io), E4 PJ5/TXD2 (io), E10 D9 (io), E11 D8 (io), E12 PA7/D7 (io), F1 PE3/~{DWE}/UCLK (io), F2 PE2/SPMCLK (io), F3 PJ6/~{RTS}2 (io), F4 PJ7/~{CTS}2 (io), F9 PK6/LD6 (io), F10 PK7/LD7 (io), F11 D11 (io), F12 D10 (io), G1 PE5/TXD1 (io), G2 PE4/RXD1 (io), G3 PJ3/~{SS} (io), G4 PJ2/SPICLK1 (io), G9 PK4/LD4 (io), G10 PK5/LD5 (io), G11 D13 (io), G12 D12 (io), H2 PE7/~{CTS}1 (io), H3 PE6/~{RTS}1 (io), H4 PJ1/MISO (io), H9 PK3/~{UDS} (io), H10 D14 (io), H11 D15 (io), J1 PG2/~{EMUIRQ} (io), J2 PG3/~{HIZ}/P/~{D} (io), J3 PG4/~{EMUCS} (io), J5 PJ0/MOSI (io), J8 PK0/~{DATA_READY}/PWMO2 (io), J9 PK2/~{LDS} (io), J10 PC0/LD0 (io), J11 PF7/~{CSA}1 (io), J12 ~{CSA}0 (io), K1 EXTAL (io), K2 PG5/~{EMUBRK} (io), K5 PD2/~{INT}2 (io), K8 PC5/LLP (io), K9 PC3/LD3 (io), K10 PK1/R~{W} (io), K11 PB2/~{CSC}0/~{RAS}0 (io), K12 PB0/~{CSB}0 (io), L1 XTAL (io), L2 PF2/CLKO (io), L3 PD7/~{IRQ}6 (io), L4 PD5/~{IRQ}2 (io), L5 PD3/~{INT}3 (io), L6 PD0/~{INT}0 (io), L7 PC7/LACD (io), L8 PC4/LFRM (io), L9 PC2/LD2 (io), L10 PB7/PWMO1 (io), L11 PB3/~{CSC}1/~{RAS}1 (io), L12 PB1/~{CSB}1/~{SDWE} (io), M2 PF1/~{IRQ}5 (io), M3 PD6/~{IRQ}3 (io), M4 PD4/~{IRQ}1 (io), M5 PD1/~{INT}1 (io), M6 PF0/LCONTRAST (io), M7 PC6/LCLK (io), M9 PC1/LD1 (io), M10 PB6/TOUT/TIN (io), M11 PB5/~{CSD}1/~{CAS}1 (io), M12 PB4/~{CSD}0/~{CAS}0 (io)
part B pins: A3 VDD (power), A10 VDD (power), C6 VSS (power), D4 VSS (power), D5 VSS (power), D6 VSS (power), E5 VSS (power), E6 VSS (power), E7 VSS (power), E8 VSS (power), E9 VSS (power), F5 VSS (power), F6 VSS (power), F7 VSS (power), F8 VSS (power), G5 VSS (power), G6 VSS (power), G7 VSS (power), G8 VSS (power), H1 VDD (power), H5 VSS (power), H6 VSS (power), H7 VSS (power), H8 VSS (power), H12 VDD (power), J4 VSS (power), J6 VSS (power), J7 VSS (power), K3 VSS (power), K4 VSS (power), K6 VSS (power), K7 VSS (power), M1 LVDD (power), M8 VDD (power)